# Altium schematic symbol library lib_protel_HC.SCHLIB: 494 symbols (part 1 of 4)
Pins are listed as number, name and electrical type; pins without a type are passive.

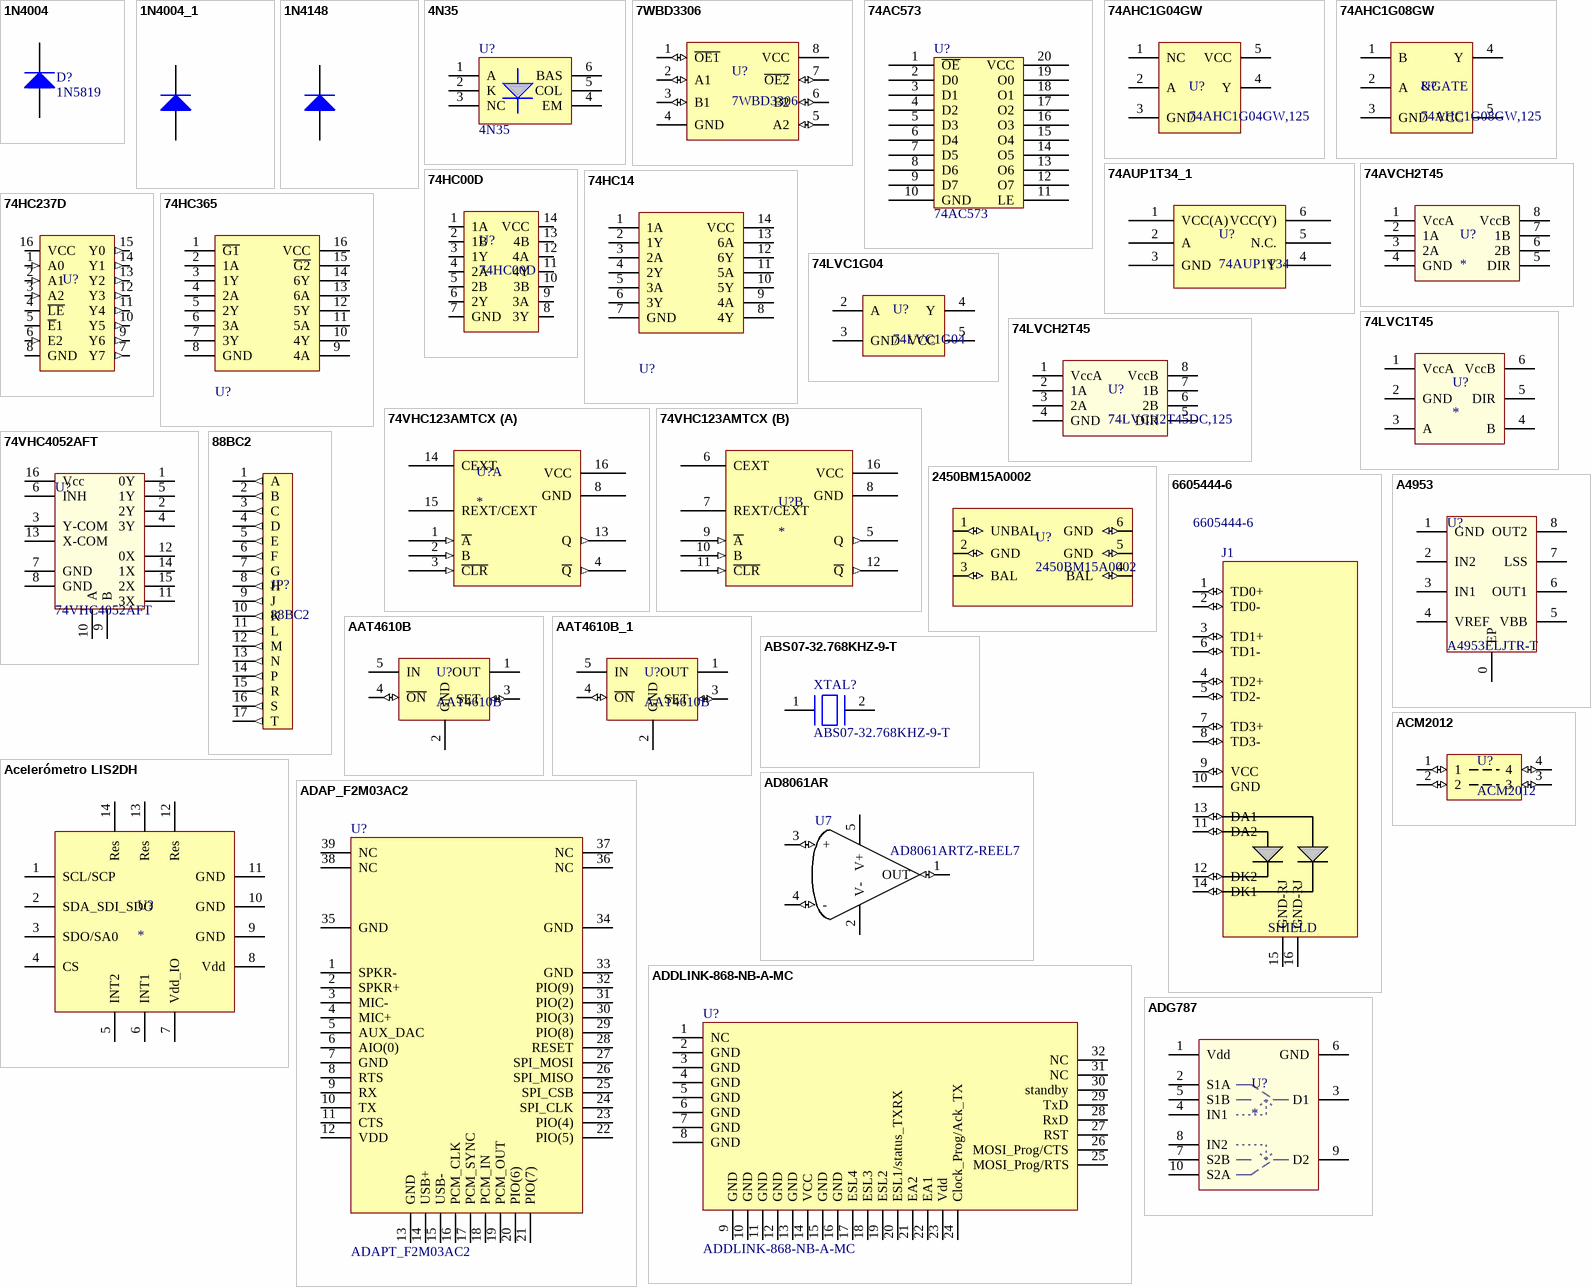
[diagram p0: symbols 1N4004 to ADG787]

## 1N4004
designator D?, comment 1N5819
1.0 Ampere General Purpose Rectifier; Manufacturer: Fairchild Semiconductor; Revision 1: 11-July-2000: SIM Model Added.; Revision 2: July-2002: Re-released for DXP Platform.; Package Information: Latest Revision: Aug-1999; Class I: Discrete; Class II: Rectifier - Standard Recovery; Published: 8-Jun-2000; Datasheet: Latest Revision: 1998; Package Reference: DO-41; Publisher: Altium Limited
footprint DIO10.46-5.3x2.8
simulation model 1N4004 (DIODE)
signal-integrity model 1N4004
footprint D0-41
pins: 1 A, 2 K

## 1N4004_1
designator D2, comment 1N5819
1.0 Ampere General Purpose Rectifier; Manufacturer: Fairchild Semiconductor; Revision 1: 11-July-2000: SIM Model Added.; Revision 2: July-2002: Re-released for DXP Platform.; Package Information: Latest Revision: Aug-1999; Class I: Discrete; Class II: Rectifier - Standard Recovery; Published: 8-Jun-2000; Datasheet: Latest Revision: 1998; Package Reference: DO-41; Publisher: Altium Limited
footprint DIO10.46-5.3x2.8
simulation model 1N4004 (DIODE)
signal-integrity model 1N4004
footprint D0-41
pins: 1 A, 2 K

## 1N4148
designator D?
Manufacturer: Fairchild Semiconductor; Revision 1: 11-July-2000: SIM Model Added.; Revision 2: July-2002: Re-released for DXP Platform.; Package Information: Latest Revision: Aug-1999; Class I: Discrete; Class II: Rectifier - Standard Recovery; Published: 8-Jun-2000; Datasheet: Latest Revision: 1998; Package Reference: DO-41; Publisher: Altium Limited
pins: 1 A, 2 K

## 4N35
designator U?
RS CODE: 817-246; REF FARNELL: *
footprint DIP6
pins: 1 A, 2 K, 3 NC, 4 EM, 5 COL, 6 BAS

## 7WBD3306
designator U?
CODIGO FARNELL: *; CODIGO MOUSER: *; DISTRIBUIDOR 1: *; DISTRIBUIDOR 2: *
pins: 1 ~{OE1} (io), 2 A1 (io), 3 B1 (io), 4 GND (power), 5 A2 (io), 6 B2 (io), 7 ~{OE2} (io), 8 VCC (power)

## 74AC573
designator U?
CODIGO FARNELL: 1103079; PRECIO FARNELL: 0.61
pins: 1 ~{OE}, 2 D0, 3 D1, 4 D2, 5 D3, 6 D4, 7 D5, 8 D6, 9 D7, 10 GND, 11 LE, 12 O7, 13 O6, 14 O5, 15 O4, 16 O3, 17 O2, 18 O1, 19 O0, 20 VCC

## 74AHC1G04GW
designator U?, comment 74AHC1G04GW,125
LOGIC AND GATE; FABRICANTE: NXP Semiconductors; CODIGO DIGIKEY: 568-2500-1-ND; CODIGO FABRICANTE: 74AHC1G04GW,125; DISTRIBUIDOR1: *; DISTRIBUIDOR2: *
footprint SSOP5
pins: 1 NC, 2 A, 3 GND, 4 Y, 5 VCC

## 74AHC1G08GW
designator U?, comment 74AHC1G08GW,125
LOGIC AND GATE; FABRICANTE: NXP Semiconductors; CODIGO DIGIKEY: 568-2501-1-ND; CODIGO FABRICANTE: 74AHC1G08GW,125; DISTRIBUIDOR1: *; DISTRIBUIDOR2: *
footprint SOT-353
pins: 1 B, 2 A, 3 GND, 4 Y, 5 VCC
text: &GATE

## 74AUP1T34_1
designator U?, comment 74AUP1T34
FABRICANTE: NXP; REFERENCIA FABRICANTE: 74AUP1T34GM; CODIGO DIGIKEY: 568-9170-1-ND; CODIGO FARNELL: *; CODIGO MOUSER: *
pins: 1 VCC(A), 2 A, 3 GND, 4 Y, 5 N.C., 6 VCC(Y)

## 74AVCH2T45
designator U?
CODIGO DIGIKEY: *; CODIGO FARNELL: *; CODIGO MOUSER: *; REF_FABRICANTE: *; FABRICANTE: *; DISTRIBUIDOR1: *; DISTRIBUIDOR2: *
pins: 1 VccA, 2 1A, 3 2A, 4 GND, 5 DIR, 6 2B, 7 1B, 8 VccB

## 74HC00D
designator U?
NAND; CODIGO FARNELL: *; PRECIO FARNELL: *
pins: 1 1A, 2 1B, 3 1Y, 4 2A, 5 2B, 6 2Y, 7 GND, 8 3Y, 9 3A, 10 3B, 11 4Y, 12 4A, 13 4B, 14 VCC

## 74HC14
designator U?  (value not drawn)
PRECIO FARNELL: *
pins: 1 1A, 2 1Y, 3 2A, 4 2Y, 5 3A, 6 3Y, 7 GND, 8 4Y, 9 4A, 10 5Y, 11 5A, 12 6Y, 13 6A, 14 VCC

## 74HC237D
designator U?  (value not drawn)
DECODIFICADOR; CODIGO FARNELL: *; PRECIO FARNELL: *
pins: 1 A0 (in), 2 A1 (in), 3 A2 (in), 4 ~{LE}, 5 ~{E}1, 6 E2 (in), 7 Y7 (out), 8 GND, 9 Y6 (out), 10 Y5 (out), 11 Y4 (out), 12 Y3 (out), 13 Y2 (out), 14 Y1 (out), 15 Y0 (out), 16 VCC

## 74HC365
designator U?  (value not drawn)
CODIGO FARNELL: *; PRECIO FARNELL: *
pins: 1 ~{G1}, 2 1A, 3 1Y, 4 2A, 5 2Y, 6 3A, 7 3Y, 8 GND, 9 4A, 10 4Y, 11 5A, 12 5Y, 13 6A, 14 6Y, 15 ~{G2}, 16 VCC

## 74LVC1G04
designator U?
LOGIC INVERTER; REF. FABRICANTE: 74LVC1G04GW; REF. DIGIKEY: 74LVC1G04W5-7DITR-ND
footprint SOT23_5
pins: 2 A, 3 GND, 4 Y, 5 VCC

## 74LVC1T45
designator U?
CODIGO DIGIKEY: *; CODIGO FARNELL: *; CODIGO MOUSER: *; FABRICANTE: *; REF_FABRICANTE: *; DISTRIBUIDOR1: *; DISTRIBUIDOR2: *
pins: 1 VccA, 2 GND, 3 A, 4 B, 5 DIR, 6 VccB

## 74LVCH2T45
designator U?, comment 74LVCH2T45DC,125
FABRICANTE: NXP Semiconductors; CODIGO DIGIKEY: 568-5497-1-ND; CODIGO FARNELL: *; CODIGO MOUSER: *; REF_FABRICANTE: 74LVCH2T45DC,125; DISTRIBUIDOR1: *; DISTRIBUIDOR2: *
footprint VSSOP-8
pins: 1 VccA, 2 1A, 3 2A, 4 GND, 5 DIR, 6 2B, 7 1B, 8 VccB

## 74VHC123AMTCX
designator U?
Multivibrador monoestable; CODIGO FARNELL: *; CODIGO DIGIKEY: *; CODIGO MOUSER: *; DISTRIBUIDOR 1: *; DISTRIBUIDOR 2: *; ComponentLink1Description: *; ComponentLink1URL: *; FABRICANTE: *; REF_FABRICANTE: *
part A pins: 1 ~{A} (in), 2 B (in), 3 ~{CLR} (in), 4 ~{Q} (out), 8 GND (power), 13 Q (out), 14 CEXT (power), 15 REXT/CEXT (power), 16 VCC (power)
part B pins: 5 Q (out), 6 CEXT (power), 7 REXT/CEXT (power), 8 GND (power), 9 ~{A} (in), 10 B (in), 11 ~{CLR} (in), 12 ~{Q} (out), 16 VCC (power)

## 74VHC4052AFT
designator U?
DEMUX; FABRICANTE: Toshiba; Vin: 2 V ~ 5.5 V; CODIGO DIGIKEY: 74VHC4052AFTCT-ND; CODIGO FARNELL: *; CODIGO MOUSER: *; DISTRIBUIDOR 1: *; DISTRIBUIDOR 2: *; REF_FABRICANTE: 74VHC4052AFT; ComponentLink1URL: *; ComponentLink1Description: *
footprint TSSOP-16
pins: 1 0Y, 2 2Y, 3 Y-COM, 4 3Y, 5 1Y, 6 INH, 7 GND, 8 GND, 9 B, 10 A, 11 3X, 12 0X, 13 X-COM, 14 1X, 15 2X, 16 Vcc

## 88BC2
designator JP?
Teclado Grayhill serie 88 de Polo Simple 4x4; REF. FABRICANTE: 88BC2
footprint 88BC2 (Teclado Grayhill serie 88 de 4x4 Polo Simple)
pins: 1 A (out) "GND", 2 B (out) "GND", 3 C (out) "GND", 4 D (out) "GND", 5 E (out) "GND", 6 F (out) "GND", 7 G (out) "GND", 8 H (out) "GND", 9 J (out) "GND", 10 K (out) "GND", 11 L (out) "GND", 12 M (out) "GND", 13 N (out) "GND", 14 P (out) "GND", 15 R (out) "GND", 16 S (out) "GND", 17 T (out) "GND"

## 2450BM15A0002
designator U?
CODIGO DIGIKEY: *; CODIGO FARNELL: *; CODIGO MOUSER: *
pins: 1 UNBAL (io), 2 GND (io), 3 BAL (io), 4 BAL (io), 5 GND (io), 6 GND (io)

## 6605444-6
designator J1
FABRICANTE: TYCO; CODIGO DIGIKEY: A99638-ND; STOCK DIGIKEY: 12; CODIGO FARNELL: 1284347
footprint HFJ11-1G02E-L11 (CONECTOR ETHERNET ALTA VELOCIDAD CON LED)
footprint 6605444-6 (CONECTOR ETHERNET ALTA VELOCIDAD CON LED)
pins: 1 TD0+ (io), 2 TD0- (io), 3 TD1+ (io), 4 TD2+ (io), 5 TD2- (io), 6 TD1- (io), 7 TD3+ (io), 8 TD3- (io), 9 VCC (io), 10 GND (power), 11 DA2 (io), 12 DK2 (io), 13 DA1 (io), 14 DK1 (io), 15 GND-RJ (power), 16 GND-RJ (power)
text: SHIELD

## A4953
designator U?, comment A4953ELJTR-T
Regulador genérico 3 pin; FABRICANTE: Allegro MicroSystems, LLC; V supply: 8 V ~ 40 V; Iout: 2A; CODIGO DIGIKEY: 620-1428-1-ND; CODIGO FARNELL: *; CODIGO MOUSER: *; DISTRIBUIDOR 1: *; DISTRIBUIDOR 2: *; REF_FABRICANTE: A4953ELJTR-T; ComponentLink1URL: *; ComponentLink1Description: *; V load: 8 V ~ 40 V
footprint SOIC-8 - ep
pins: 0 EP, 1 GND, 2 IN2, 3 IN1, 4 VREF, 5 VBB, 6 OUT1, 7 LSS, 8 OUT2

## AAT4610B
designator U?
CODIGO FABRICANTE: AAT4610BIGV-1-T1; CODIGO DIGIKEY: 863-1485-1-ND
footprint SOT23_5
pins: 1 OUT (power), 2 GND (power), 3 SET (io), 4 ~{ON} (io), 5 IN (power)

## AAT4610B_1
designator U?, comment AAT4610B
CODIGO FABRICANTE: AAT4610BIGV-1-T1; CODIGO DIGIKEY: 863-1485-1-ND
footprint SOT23_5
pins: 1 OUT (power), 2 GND (power), 3 SET (io), 4 ~{ON} (io), 5 IN (power)

## ABS07-32.768KHZ-9-T
designator XTAL?
Crystal Oscillator; CODIGO DIGIKEY: 535-9544-1-ND
pins: 1, 2

## Acelerómetro LIS2DH
designator U?
Acelerómetro ST - LIS2DH; CODIGO_DIGIKEY: *; CODIGO_FARNELL: *; CODIGO_MOUSER: *; ComponentLink1Description: *; ComponentLink1URL: *; DISTRIBUIDOR 1: *; DISTRIBUIDOR 2: *; FABRICANTE: *; REF_FABRICANTE: *
pins: 1 SCL/SCP, 2 SDA_SDI_SDO, 3 SDO/SA0, 4 CS, 5 INT2, 6 INT1, 7 Vdd_IO, 8 Vdd, 9 GND, 10 GND, 11 GND, 12 Res, 13 Res, 14 Res

## ACM2012
designator U?
DIGIKEY REF: *
pins: 1 (io), 2 (io), 3 (io), 4 (io)

## AD8061AR
designator U7, comment AD8061ARTZ-REEL7
Manufacturer: ANALOG DEVICES; PLAZO ENTREGA: INMEDIATO DIGIKEY-FARNELL; CODIGO DIGIKEY: AD8061ARTZ-REEL7CT-ND; STOCK DIGIKEY: 4925; PRECIO DIGIKEY 1: 1.49; PRECIO DIGIKEY 100: 0.891; PRECIO DIGIKEY 500: 0.8019; PRECIO DIGIKEY 1000: 0.7722; CODIGO FARNELL: 1319424; PRECIO FARNELL 1: 2.3; STOCK FARNELL: 1383
footprint SOT23_5
pins: 1 OUT (io), 2 V- (power), 3 + (io), 4 - (io), 5 V+ (power)

## ADAP_F2M03AC2
designator U?, comment ADAPT_F2M03AC2
pins: 1 SPKR-, 2 SPKR+, 3 MIC-, 4 MIC+, 5 AUX_DAC, 6 AIO(0), 7 GND, 8 RTS, 9 RX, 10 TX, 11 CTS, 12 VDD, 13 GND, 14 USB+, 15 USB-, 16 PCM_CLK, 17 PCM_SYNC, 18 PCM_IN, 19 PCM_OUT, 20 PIO(6), 21 PIO(7), 22 PIO(5), 23 PIO(4), 24 SPI_CLK, 25 SPI_CSB, 26 SPI_MISO, 27 SPI_MOSI, 28 RESET, 29 PIO(8), 30 PIO(3), 31 PIO(2), 32 PIO(9), 33 GND, 34 GND, 35 GND, 36 NC, 37 NC, 38 NC, 39 NC

## ADDLINK-868-NB-A-MC
designator U?
footprint ADDLINK-868-NB-A-MC (MODULO RF TINY)
pins: 1 NC, 2 GND, 3 GND, 4 GND, 5 GND, 6 GND, 7 GND, 8 GND, 9 GND, 10 GND, 11 GND, 12 GND, 13 GND, 14 VCC, 15 GND, 16 GND, 17 ESL4, 18 ESL3, 19 ESL2, 20 ESL1/status_TXRX, 21 EA2, 22 EA1, 23 Vdd, 24 Clock_Prog/Ack_TX, 25 MOSI_Prog/RTS, 26 MOSI_Prog/CTS, 27 RST, 28 RxD, 29 TxD, 30 standby, 31 NC, 32 NC

## ADG787
designator U?
for LFCSP y MSOP; CODIGO DIGIKEY: *; CODIGO MOUSER: *; CODIGO FARNELL: *; FABRICANTE: *; REF_FABRICANTE: *; DISTRIBUIDOR1: *; DISTRIBUIDOR2: *
pins: 1 Vdd, 2 S1A, 3 D1, 4 IN1, 5 S1B, 6 GND, 7 S2B, 8 IN2, 9 D2, 10 S2A

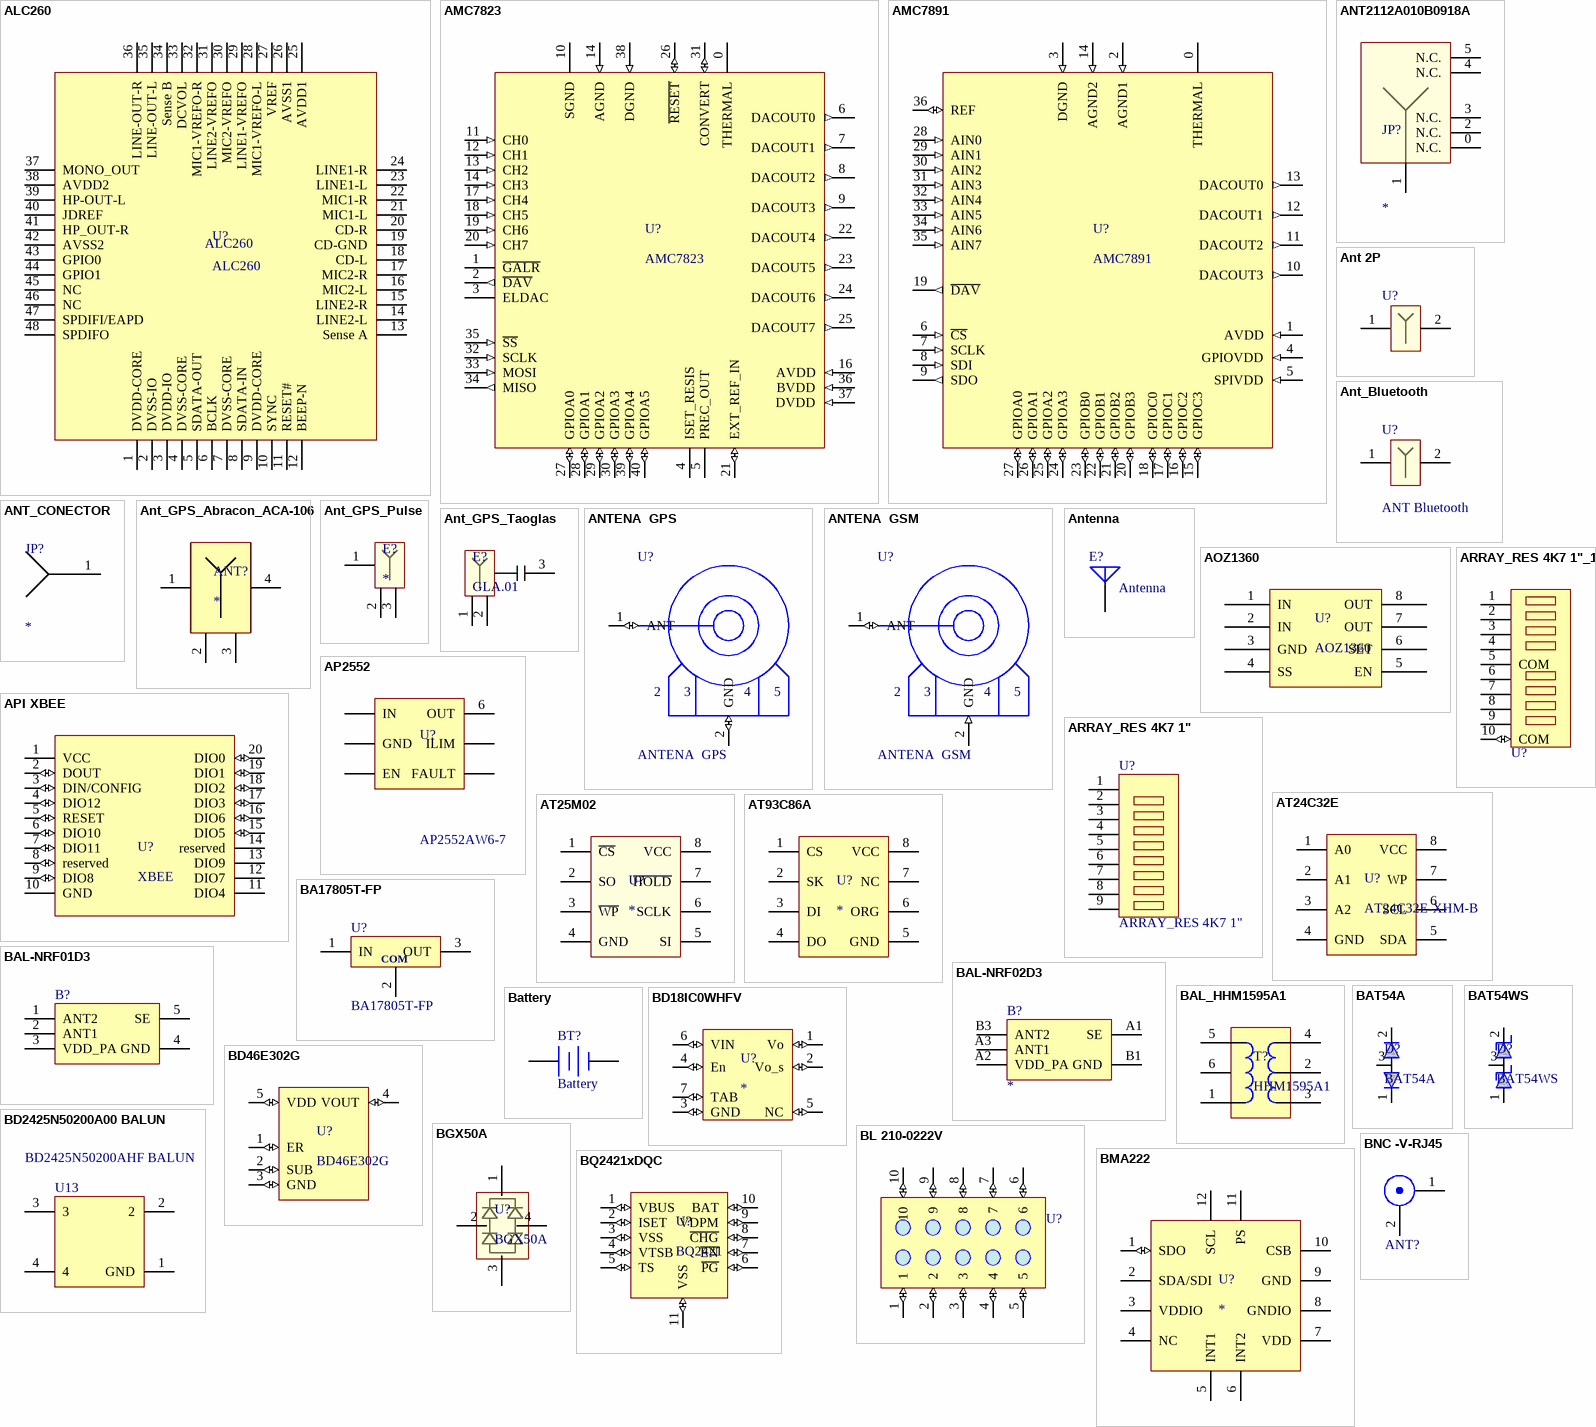
[diagram p1: symbols ALC260 to BQ2421xDQC]

## ALC260
designator U?
CODIGO DIGIKEY: *; CODIGO FARNELL: *; CODIGO MOUSER: *; FABRICANTE: *; CODIGO PRODUCTO: *; DISTRIBUIDOR 1: *; DISTRIBUIDOR 2: *
pins: 1 DVDD-CORE, 2 DVSS-IO, 3 DVDD-IO, 4 DVSS-CORE, 5 SDATA-OUT, 6 BCLK, 7 DVSS-CORE, 8 SDATA-IN, 9 DVDD-CORE, 10 SYNC, 11 RESET#, 12 BEEP-N, 13 Sense A, 14 LINE2-L, 15 LINE2-R, 16 MIC2-L, 17 MIC2-R, 18 CD-L, 19 CD-GND, 20 CD-R, 21 MIC1-L, 22 MIC1-R, 23 LINE1-L, 24 LINE1-R, 25 AVDD1, 26 AVSS1, 27 VREF, 28 MIC1-VREFO-L, 29 LINE1-VREFO, 30 MIC2-VREFO, 31 LINE2-VREFO, 32 MIC1-VREFO-R, 33 DCVOL, 34 Sense B, 35 LINE-OUT-L, 36 LINE-OUT-R, 37 MONO_OUT, 38 AVDD2, 39 HP-OUT-L, 40 JDREF, 41 HP_OUT-R, 42 AVSS2, 43 GPIO0, 44 GPIO1, 45 NC, 46 NC, 47 SPDIFI/EAPD, 48 SPDIFO

## AMC7823
designator U?
TEXAS INSTRUMENTS: AMC7823
pins: 0 THERMAL, 1 ~{GALR}, 2 ~{DAV} (out), 3 ELDAC, 4 ISET_RESIS, 5 PREC_OUT, 6 DACOUT0 (out), 7 DACOUT1 (out), 8 DACOUT2 (out), 9 DACOUT3 (out), 10 SGND (power), 11 CH0 (in), 12 CH1 (in), 13 CH2 (in), 14 AGND (in), 14 CH3 (in), 16 AVDD (in), 17 CH4 (in), 18 CH5 (in), 19 CH6 (in), 20 CH7 (in), 21 EXT_REF_IN (io), 22 DACOUT4 (out), 23 DACOUT5 (out), 24 DACOUT6 (out), 25 DACOUT7 (out), 26 ~{RESET} (io), 27 GPIOA0 (io), 28 GPIOA1 (io), 29 GPIOA2 (io), 30 GPIOA3 (io), 31 CONVERT (io), 32 SCLK (in), 33 MOSI (in), 34 MISO (out), 35 ~{SS} (in), 36 BVDD (in), 37 DVDD (in), 38 DGND (in), 39 GPIOA4 (io), 40 GPIOA5 (io)

## AMC7891
designator U?
TEXAS INSTRUMENTS: AMC7891
pins: 0 THERMAL, 1 AVDD (in), 2 AGND1 (in), 3 DGND (in), 4 GPIOVDD (in), 5 SPIVDD (in), 6 ~{CS} (in), 7 SCLK (in), 8 SDI (in), 9 SDO (out), 10 DACOUT3 (out), 11 DACOUT2 (out), 12 DACOUT1 (out), 13 DACOUT0 (out), 14 AGND2 (in), 15 GPIOC3 (io), 16 GPIOC2 (io), 17 GPIOC1 (io), 18 GPIOC0 (io), 19 ~{DAV} (out), 20 GPIOB3 (io), 21 GPIOB2 (io), 22 GPIOB1 (io), 23 GPIOB0 (io), 24 GPIOA3 (io), 25 GPIOA2 (io), 26 GPIOA1 (io), 27 GPIOA0 (io), 28 AIN0 (in), 29 AIN1 (in), 30 AIN2 (in), 31 AIN3 (in), 32 AIN4 (in), 33 AIN5 (in), 34 AIN6 (in), 35 AIN7 (in), 36 REF (io)

## ANT2112A010B0918A
designator JP?
Antenna conector; CÓDIGO DIGIKEY: *; CÓDIGO FARNELL: *; CÓDIGO MOUSER: *; FABRICANTE: *; REF_FABRICANTE: *; DISTRIBUIDOR 1: *; DISTRIBUIDOR 2: *
pins: 0 N.C., 1 ANT, 2 N.C., 3 N.C., 4 N.C., 5 N.C.

## Ant 2P
designator U?, comment ANTENNA  (value not drawn)
Antena 2 pines; CODIGO DIGIKEY: *; CODIGO FARNELL: *; CODIGO MOUSER: *; FABRICANTE: *; REF_FABRICANTE: *; DISTRIBUIDOR 1: *; DISTRIBUIDOR 2: *; ComponentLink1URL: *; ComponentLink1Description: *
pins: 1, 2

## Ant_Bluetooth
designator U?, comment ANT Bluetooth
CODIGO DIGIKEY: *; CODIGO FARNELL: *; CODIGO MOUSER: *; FABRICANTE: *; REF_FABRICANTE: *; DISTRIBUIDOR 1: *; DISTRIBUIDOR 2: *; ComponentLink1URL: *; ComponentLink1Description: *
pins: 1, 2

## ANT_CONECTOR
designator JP?
Antenna conector; CODIGO DIGIKEY: *; CODIGO FARNELL: *; CODIGO MOUSER: *; FABRICANTE: *; REF_FABRICANTE: *; DISTRIBUIDOR 1: *; DISTRIBUIDOR 2: *
pins: 1 ANT

## Ant_GPS_Abracon_ACA-106
designator ANT?
GPS Antena; CODIGO DIGIKEY: *; CODIGO MOUSER: *; CODIGO FARNELL: *; REF_FABRICANTE: *; FABRICANTE: *; ComponentLink1Description: *; ComponentLink1URL: *; DISTRIBUIDOR1: *; DISTRIBUIDOR2: *
footprint ANT_GPS_ABRACON_ACA-106 (Antena GPS Abracom ACA-106)
pins: 1, 2, 3, 4

## Ant_GPS_Pulse
designator E?
Antena GPS Pulse; CODIGO DIGIKEY: *; CODIGO FARNELL: *; CODIGO MOUSER: *; FABRICANTE: *; REF_FABRICANTE: *; DISTRIBUIDOR 1: *; DISTRIBUIDOR 2: *; ComponentLink1URL: *; ComponentLink1Description: *
pins: 1, 2, 3

## Ant_GPS_Taoglas
designator E?, comment GLA.01
Antena GPS Pulse; FABRICANTE: Taoglas Limited; CODIGO DIGIKEY: 931-1029-1-ND; CODIGO FARNELL: *; CODIGO MOUSER: *; REF_FABRICANTE: GLA.01; DISTRIBUIDOR 1: *; DISTRIBUIDOR 2: *; ComponentLink1URL: *; ComponentLink1Description: *
footprint ANTENA GLA.01 GPS
pins: 1, 2, 3

## ANTENA  GPS
designator U?
FABRICANTE: NTK; REF FABRICANTE: LIT157P-2003A; PRECIO: *
footprint LIT157P-2004A (ANTENA GPS)
pins: 1 ANT (io), 2 GND (io)
text: 3; 4; 5

## ANTENA  GSM
designator U?
FABRICANTE: TYCO ELECTRONICS; REF FABRICANTE: EBD0-0248-03 MMCX STRAIGHT PCB; REF ANTENA LATIGUILLO: YAGEO CAN4313330129191B; PRECIO ANTENA: 2.26; PRECIO CONECTOR: *
footprint MMCX CONNECTOR (conector para antena gsm MMCX)
pins: 1 ANT (io), 2 GND (in)
text: 3; 4; 5

## Antenna
designator E?
Generic Antenna; Published: 24-Mar-1999; Revision: July-2002: Re-released for DXP Platform.; Publisher: Altium Limited; CODIGO DIGIKEY: *; CODIGO FARNELL: *; CODIGO MOUSER: *
footprint PIN1
footprint FR05-S1-N-0-001 (ANTENA FRACTUS CUADRADA ZIGBEE)
pins: 1 A

## AOZ1360
designator U?
CODIGO DIGIKEY: 785-1418-1-ND; CODIGO FARNELL: *; CODIGO MOUSER: *
pins: 1 IN, 2 IN, 3 GND, 4 SS, 5 EN, 6 SET, 7 OUT, 8 OUT

## AP2552
designator U?, comment AP2552AW6-7
IC PD SW CURR LIMIT SOT26; FABRICANTE: Diodes; Voltaje: 2.7V-5.5V; Imax: 2.1; CODIGO DIGIKEY: AP2552AW6-7DICT-ND; CODIGO FARNELL: *; CODIGO MOUSER: *; REF_FABRICANTE: AP2552AW6-7; DISTRIBUIDOR 1: *; DISTRIBUIDOR 2: *; ComponentLink1URL: *; ComponentLink1Description: *
footprint SOT-26
pins: 1 IN, 2 GND, 3 EN, 4 FAULT, 5 ILIM, 6 OUT (power)

## API XBEE
designator U?, comment XBEE
CODIGO FABRICANTE: *
pins: 1 VCC (power), 2 DOUT (io), 3 DIN/CONFIG (io), 4 DIO12 (io), 5 RESET (io), 6 DIO10 (io), 7 DIO11 (io), 8 reserved (io), 9 DIO8 (io), 10 GND (power), 11 DIO4 (power), 12 DIO7 (power), 13 DIO9 (power), 14 reserved (power), 15 DIO5 (io), 16 DIO6 (io), 17 DIO3 (io), 18 DIO2 (io), 19 DIO1 (io), 20 DIO0 (io)

## ARRAY_RES 4K7 1"
designator U?
REF FARNELL: *; REF AMIDATA: *
footprint HDR1X8
pins: 1 COM, 2, 3, 4, 5, 6, 7, 8, 9

## ARRAY_RES 4K7 1"_1
designator U?, comment ARRAY 8 RESIST  (value not drawn)
REF FARNELL SMD: 923-6155; REF AMIDATA: *; PRECIO FARNELL: 0.23
footprint HDR1X8
footprint 1206 ARRAY RESIST
pins: 1, 2, 3, 4, 5 COM, 6, 7, 8, 9, 10 COM (io)

## AT24C32E
designator U?, comment AT24C32E-XHM-B
EEPROM memory; FABRICANTE: Microchip Technology; CODIGO FARNELL: *; CODIGO DIGIKEY: 1611-AT24C32E-XHM-B-ND; CODIGO MOUSER: *; REF_FABRICANTE: AT24C32E-XHM-B; DISTRIBUIDOR1: *; DISTRIBUIDOR2: *
pins: 1 A0, 2 A1, 3 A2, 4 GND (power), 5 SDA, 6 SCL (power), 7 WP, 8 VCC (power)

## AT25M02
designator U?
CODIGO DIGIKEY: *; CODIGO FARNELL: *; CODIGO MOUSER: *; REF_FABRICANTE: *; FABRICANTE: *; DISTRIBUIDOR1: *; DISTRIBUIDOR2: *
pins: 1 ~{CS}, 2 SO, 3 ~{WP}, 4 GND, 5 SI, 6 SCLK, 7 ~{HOLD}, 8 VCC

## AT93C86A
designator U?
EEPROM memory; CODIGO FARNELL: *; CODIGO DIGIKEY: *; FABRICANTE: *; CODIGO MOUSER: *; REF_FABRICANTE: *; DISTRIBUIDOR1: *; DISTRIBUIDOR2: *
pins: 1 CS, 2 SK, 3 DI, 4 DO (power), 5 GND, 6 ORG (power), 7 NC, 8 VCC (power)

## BA17805T-FP
designator U?
RS CODE: 263-9795
footprint DPACK
pins: 1 IN, 2 COM, 3 OUT

## BAL-NRF01D3
designator B?
ST BAL-NRF01D3; REF FABRICANTE: *; CÓDIGO MOUSER: *; CÓDIGO FARNELL: *; CÓDIGO DIGIKEY: *; FABRICANTE: *; DISTRIBUIDOR 1: *; DISTRIBUIDOR 2: *
pins: 1 ANT2, 2 ANT1, 3 VDD_PA, 4 GND, 5 SE

## BAL-NRF02D3
designator B?
50 ohm balun transformer for 2.45GHz ISM; FABRICANTE: *; REF_FABRICANTE: *; CODIGO DIGIKEY: *; CODIGO MOUSER: *; CODIGO FARNELL: *; DISTRIBUIDOR 1: *; DISTRIBUIDOR 2: *
pins: A1 SE, A2 VDD_PA (power), A3 ANT1, B1 GND (power), B3 ANT2

## BAL_HHM1595A1
designator T?, comment HHM1595A1
50 ohm balun transformer for UWB; FABRICANTE: TDK; ENCAPSULADO: 0805; FRECUENCIA: 3.0 - 8.0 GHz; CODIGO DIGIKEY: *; CODIGO FARNELL: *; CODIGO MOUSER: *; REF_FABRICANTE: HHM1595A1; ComponentLink1Description: *; ComponentLink1URL: *; DISTRIBUIDOR1: *; DISTRIBUIDOR2: *
pins: 1, 2, 3, 4, 5, 6

## BAT54A
designator D?
CODIGO DIGIKEY: *; CODIGO FARNELL: *; CODIGO MOUSER: *; DISTRIBUIDOR 1: *; DISTRIBUIDOR 2: *
pins: 1, 2, 3

## BAT54WS
designator D?
REF FABRICANTE: BAT54WS; CODIGO DIGIKEY: *; CODIGO FARNELL: *; CODIGO MOUSER: *; DISTRIBUIDOR 1: *; DISTRIBUIDOR 2: *
pins: 1, 2, 3

## Battery
designator BT?
Multicell Battery; Published: 24-Mar-1999; LatestRevisionDate: 17-Jul-2002; LatestRevisionNote: Re-released for DXP Platform.; PackageReference: BAT-2; Publisher: Altium Limited; PackageDescription: Battery; 2 Leads; CODIGO DIGIKEY: *; CODIGO FARNELL: *; CODIGO MOUSER: *; CODIGO FABRICANTE: *; DISTRIBUIDOR 1: *; DISTRIBUIDOR 2: *; TENSION: *; FABRICANTE: *
pins: 1 +, 2 -

## BD18IC0WHFV
designator U?
FABRICANTE: *; CODIGO FABRICANTE: *; CODIGO DIGIKEY: *; VOUT: *; VIN: *; CORRIENTE: *; FOOTPRINT: *
pins: 1 Vo (io), 2 Vo_s (io), 3 GND (io), 4 En (io), 5 NC (io), 6 VIN (io), 7 TAB (io)

## BD46E302G
designator U?
FABRICANTE: *; CODIGO FABRICANTE: *; CODIGO DIGIKEY: *; FOOTPRINT: *; DISTRIBUIDOR: *
pins: 1 ER (io), 2 SUB (io), 3 GND (io), 4 VOUT (io), 5 VDD (io)

## BD2425N50200A00 BALUN
designator U13, comment BD2425N50200AHF BALUN
FABRICANTE: ANAREN; PRECIO 10: 0.24; PRECIO 5000: 0.19; DISTRIBUIDOR: RICHARSON; CODIGO PRODUCTO: BD2425N50200AHF; PRECIO 1000: 0.24
footprint BD2425N50200A (BALUN 2.4GHZ)
pins: 1 GND, 2, 3, 4

## BGX50A
designator U?
CODIGO MOUSER: *; FABRICANTE: *; DISTRIBUIDOR 1: *; DISTRIBUIDOR 2: *
pins: 1, 2, 3, 4

## BL 210-0222V
designator U?, comment CONECTOR 5X2 MINI  (value not drawn)
conector pines 1mm 5 x 2 de GARRY; REFERENCIA FABRICANTE: BL 210-0222V-010 CU; PRECIO ERMEC: 0,4857 Euros/unidad PARA 10.000 UNIDADES; REFERENCIA PINES MACHO: STL210-0940GTT-10-010U; PRECIO ERMEC PINES: 0,2264 Euros/unidad PARA 10.000 UNIDADES; plazo de entrega por ERMEC: 6-8 SEMANAS; FABRICANTE: GARRY; DISTRIBUIDOR: ERMEC ESPAÑA
footprint BL 210-0222V (conector 5 x 2 1mm)
pins: 1 (io), 2 (io), 3 (io), 4 (io), 5 (io), 6 (io), 7 (io), 8 (io), 9 (io), 10 (io)

## BMA222
designator U?
Acelerómetro 2g - 16g ~ 1.2V - 3.6V ~ SPI/I2C; CÓDIGO DIGIKEY: *; CÓDIGO FARNELL: *; CÓDIGO MOUSER: *; FABRICANTE: *; REF_FABRICANTE: *; DISTRIBUIDOR 1: *; DISTRIBUIDOR 2: *
pins: 1 SDO (io), 2 SDA/SDI, 3 VDDIO, 4 NC, 5 INT1, 6 INT2, 7 VDD, 8 GNDIO, 9 GND, 10 CSB, 11 PS, 12 SCL

## BNC -V-RJ45
designator ANT?
REF FARNELL: 378-6470
footprint SMB_V-RJ45
pins: 1 X, 2 Y

## BQ2421xDQC
designator U?, comment BQ2421
pins: 1 VBUS (io), 2 ISET (io), 3 VSS (io), 4 VTSB (io), 5 TS (io), 6 ~{PG} (io), 7 ~{EN} (io), 8 ~{CHG} (io), 9 VDPM (io), 10 BAT (io), 11 VSS (io)

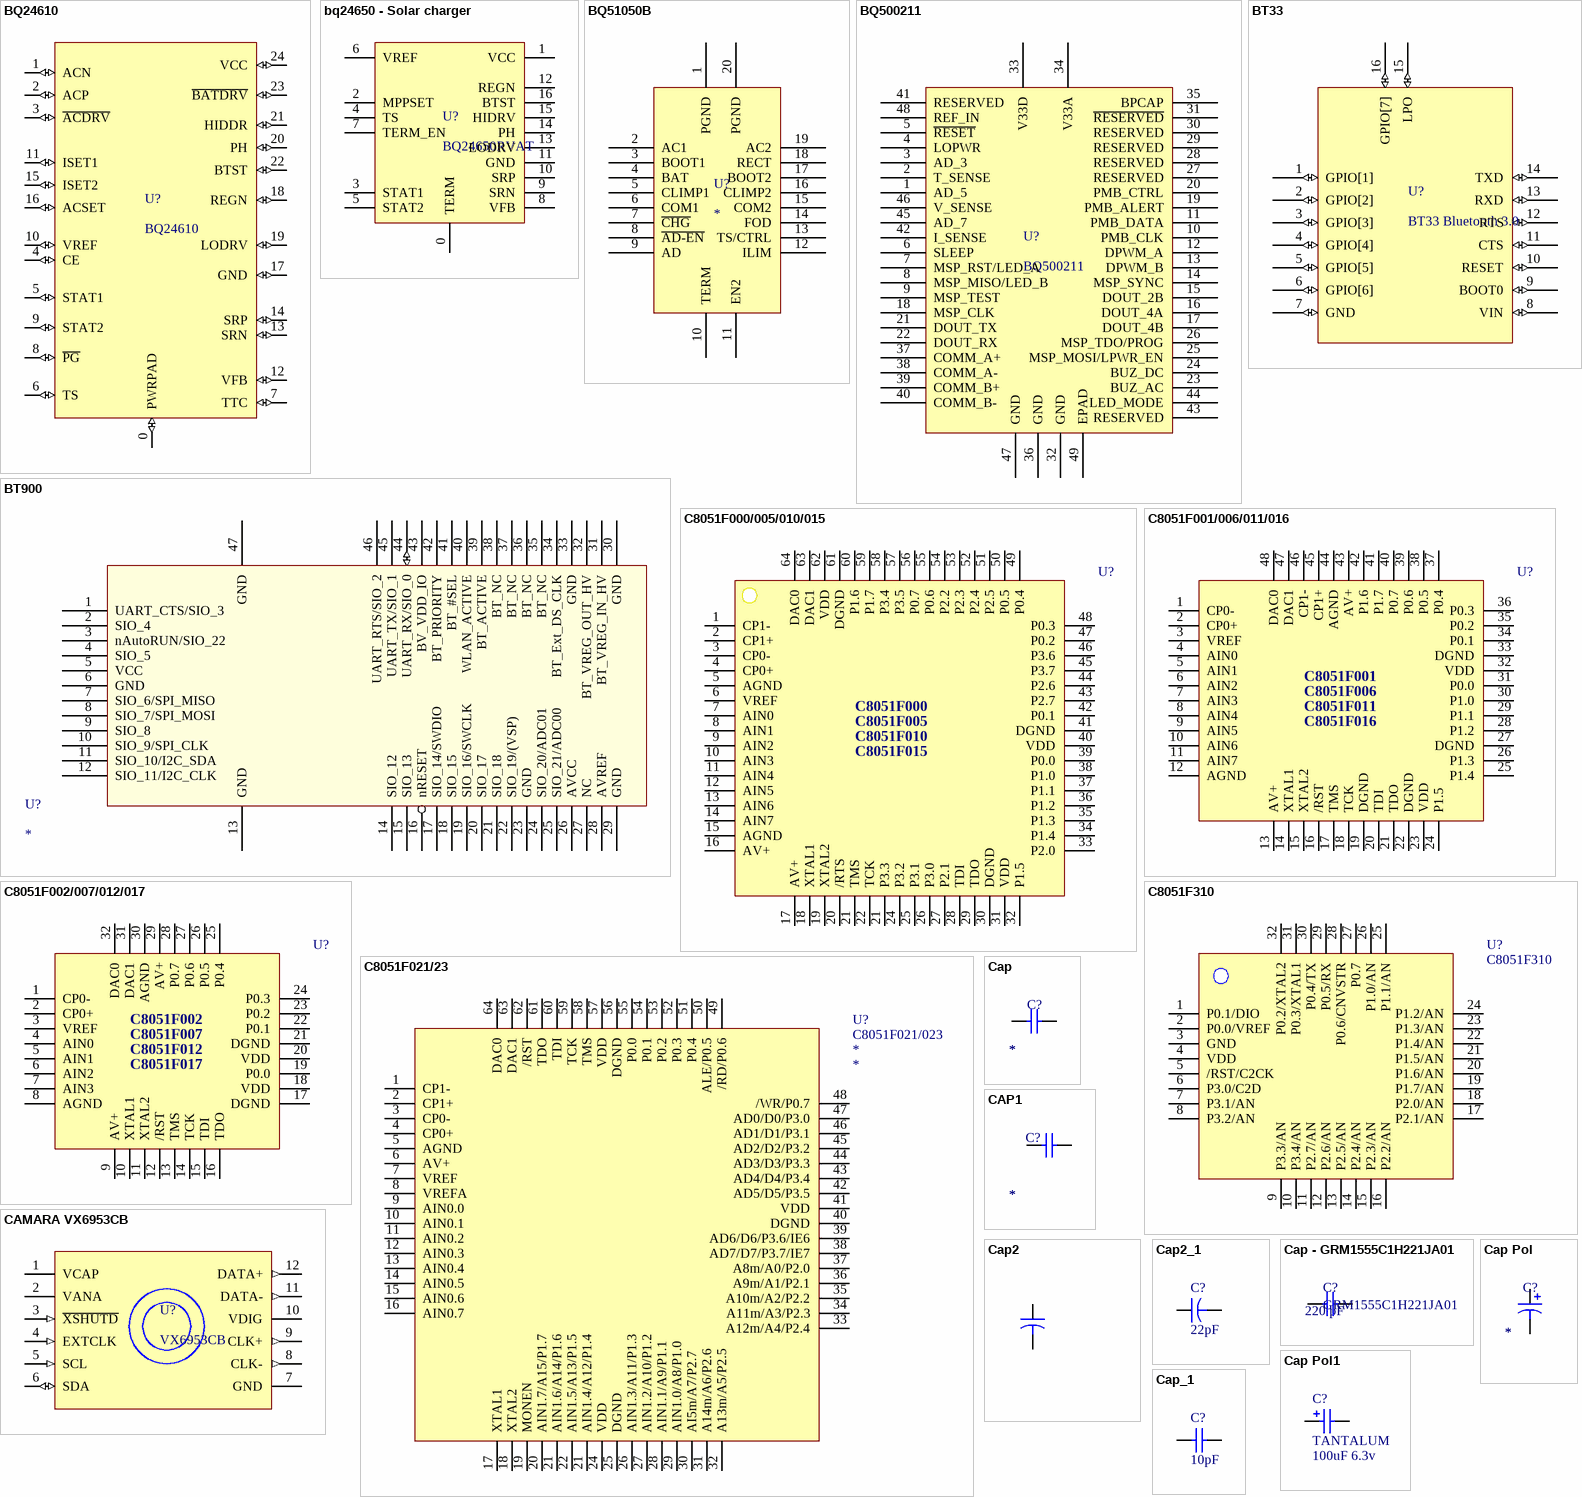
[diagram p2: symbols BQ24610 to Cap_1]

## BQ24610
designator U?
CODIGO DIGIKEY: *; CODIGO MOUSER: *; CODIGO FARNELL: *; DISTRIBUIDOR 1: *; DISTRIBUIDOR 2: *; CODIGO FABRICANTE: *; VIN: *; I OUT: *
pins: 0 PWRPAD (io), 1 ACN (io), 2 ACP (io), 3 ~{ACDRV} (io), 4 CE (io), 5 STAT1 (io), 6 TS (io), 7 TTC (io), 8 ~{PG} (io), 9 STAT2 (io), 10 VREF (io), 11 ISET1 (io), 12 VFB (io), 13 SRN (io), 14 SRP (io), 15 ISET2 (io), 16 ACSET (io), 17 GND (io), 18 REGN (io), 19 LODRV (io), 20 PH (io), 21 HIDDR (io), 22 BTST (io), 23 ~{BATDRV} (io), 24 VCC (io)

## bq24650 - Solar charger
designator U?, comment BQ24650RVAT
Cargador de batería; FABRICANTE: TI; Vin: 2.1V - 28V; VOut: 2.1V - 26V; Iout: <10A; CODIGO DIGIKEY: *; CODIGO FARNELL: *; CODIGO MOUSER: *; DISTRIBUIDOR 1: *; DISTRIBUIDOR 2: *; REF_FABRICANTE: BQ24650RVAT; ComponentLink1Description: *; ComponentLink1URL: *
footprint VQFN-16 (3.5X3.5)
pins: 0 TERM, 1 VCC, 2 MPPSET, 3 STAT1, 4 TS, 5 STAT2, 6 VREF, 7 TERM_EN, 8 VFB, 9 SRN, 10 SRP, 11 GND, 12 REGN, 13 LODRV, 14 PH, 15 HIDRV, 16 BTST

## BQ51050B
designator U?
CODIGO DIGIKEY: *; CODIGO FARNELL: *; CODIGO MOUSER: *; FABRICANTE: *
pins: 1 PGND, 2 AC1, 3 BOOT1, 4 BAT, 5 CLIMP1, 6 COM1, 7 ~{CHG}, 8 ~{AD-EN}, 9 AD, 10 TERM, 11 EN2, 12 ILIM, 13 TS/CTRL, 14 FOD, 15 COM2, 16 CLIMP2, 17 BOOT2, 18 RECT, 19 AC2, 20 PGND

## BQ500211
designator U?
REF FABRICANTE: *; CODIGO DIGIKEY: *; CODIGO FARNELL: *; CODIGO MOUSER: *; DISTRIBUIDOR 1: *; DISTRIBUIDOR 2: *; FABRICANTE: *
pins: 1 AD_5, 2 T_SENSE, 3 AD_3, 4 LOPWR, 5 ~{RESET}, 6 SLEEP, 7 MSP_RST/LED_A, 8 MSP_MISO/LED_B, 9 MSP_TEST, 10 PMB_CLK, 11 PMB_DATA, 12 DPWM_A, 13 DPWM_B, 14 MSP_SYNC, 15 DOUT_2B, 16 DOUT_4A, 17 DOUT_4B, 18 MSP_CLK, 19 PMB_ALERT, 20 PMB_CTRL, 21 DOUT_TX, 22 DOUT_RX, 23 BUZ_AC, 24 BUZ_DC, 25 MSP_MOSI/LPWR_EN, 26 MSP_TDO/PROG, 27 RESERVED, 28 RESERVED, 29 RESERVED, 30 RESERVED, 31 ~{RESERVED}, 32 GND, 33 V33D, 34 V33A, 35 BPCAP, 36 GND, 37 COMM_A+, 38 COMM_A-, 39 COMM_B+, 40 COMM_B-, 41 RESERVED, 42 I_SENSE, 43 RESERVED, 44 LED_MODE, 45 AD_7, 46 V_SENSE, 47 GND, 48 REF_IN, 49 EPAD

## BT33
designator U?, comment BT33 Bluetooth 3.0
Modulo Bluetooth 3.0; FABRICANTE: AMPED RF; REFERENCIA FABRICANTE: BT33; CODIGO DIGIKEY: *; CODIGO MOUSER: *; CODIGO FARNELL: *; DISTRIBUIDOR 1: SINNOPTIC; DISTRIBUIDOR 2: *
pins: 1 GPIO[1] (io), 2 GPIO[2] (io), 3 GPIO[3] (io), 4 GPIO[4] (io), 5 GPIO[5] (io), 6 GPIO[6] (io), 7 GND (io), 8 VIN (io), 9 BOOT0 (io), 10 RESET (io), 11 CTS (io), 12 RTS (io), 13 RXD (io), 14 TXD (io), 15 LPO (io), 16 GPIO[7] (io)

## BT900
designator U?
Bluetooth 4.0 dual mode module; CODIGO DIGIKEY: *; CODIGO FARNELL: *; CODIGO MOUSER: *; DISTRIBUIDOR 1: *; DISTRIBUIDOR 2: *; FABRICANTE: *; REF_FABRICANTE: *; ComponentLink1Description: *; ComponentLink1URL: *
pins: 1 UART_CTS/SIO_3, 2 SIO_4, 3 nAutoRUN/SIO_22, 4 SIO_5, 5 VCC (power), 6 GND (power), 7 SIO_6/SPI_MISO, 8 SIO_7/SPI_MOSI, 9 SIO_8, 10 SIO_9/SPI_CLK, 11 SIO_10/I2C_SDA, 12 SIO_11/I2C_CLK, 13 GND, 14 SIO_12, 15 SIO_13, 16 nRESET, 17 SIO_14/SWDIO, 18 SIO_15, 19 SIO_16/SWCLK, 20 SIO_17, 21 SIO_18, 22 SIO_19/(VSP), 23 GND, 24 SIO_20/ADC01, 25 SIO_21/ADC00, 26 AVCC, 27 NC, 28 AVREF, 29 GND, 30 GND, 31 BT_VREG_IN_HV, 32 BT_VREG_OUT_HV, 33 GND, 34 BT_Ext_DS_CLK, 35 BT_NC, 36 BT_NC, 37 BT_NC, 38 BT_NC, 39 BT_ACTIVE, 40 WLAN_ACTIVE, 41 BT_#SEL, 42 BT_PRIORITY, 43 BV_VDD_IO (power), 44 UART_RX/SIO_0 (io), 45 UART_TX/SIO_1, 46 UART_RTS/SIO_2, 47 GND

## C8051F000/005/010/015
designator U?
MCU Silicon Laboratories
footprint TQFP-64
footprint TQFP-48
footprint TQFP-64
pins: 1 CP1-, 2 CP1+, 3 CP0-, 4 CP0+, 5 AGND, 6 VREF, 7 AIN0, 8 AIN1, 9 AIN2, 10 AIN3, 11 AIN4, 12 AIN5, 13 AIN6, 14 AIN7, 15 AGND, 16 AV+, 17 AV+, 18 XTAL1, 19 XTAL2, 20 /RTS, 21 TMS, 21 P3.3, 22 TCK, 24 P3.2, 25 P3.1, 26 P3.0, 27 P2.1, 28 TDI, 29 TDO, 30 DGND, 31 VDD, 32 P1.5, 33 P2.0, 34 P1.4, 35 P1.3, 36 P1.2, 37 P1.1, 38 P1.0, 39 P0.0, 40 VDD, 41 DGND, 42 P0.1, 43 P2.7, 44 P2.6, 45 P3.7, 46 P3.6, 47 P0.2, 48 P0.3, 49 P0.4, 50 P0.5, 51 P2.5, 52 P2.4, 53 P2.3, 54 P2.2, 55 P0.6, 56 P0.7, 57 P3.5, 58 P3.4, 59 P1.7, 60 P1.6, 61 DGND, 62 VDD, 63 DAC1, 64 DAC0
text: C8051F000; C8051F005; C8051F010; C8051F015

## C8051F001/006/011/016
designator U?
footprint TQFP-48
pins: 1 CP0-, 2 CP0+, 3 VREF, 4 AIN0, 5 AIN1, 6 AIN2, 7 AIN3, 8 AIN4, 9 AIN5, 10 AIN6, 11 AIN7, 12 AGND, 13 AV+, 14 XTAL1, 15 XTAL2, 16 /RST, 17 TMS, 18 TCK, 19 DGND, 20 TDI, 21 TDO, 22 DGND, 23 VDD, 24 P1.5, 25 P1.4, 26 P1.3, 27 DGND, 28 P1.2, 29 P1.1, 30 P1.0, 31 P0.0, 32 VDD, 33 DGND, 34 P0.1, 35 P0.2, 36 P0.3, 37 P0.4, 38 P0.5, 39 P0.6, 40 P0.7, 41 P1.7, 42 P1.6, 43 AV+, 44 AGND, 45 CP1+, 46 CP1-, 47 DAC1, 48 DAC0
text: C8051F001; C8051F006; C8051F011; C8051F016

## C8051F002/007/012/017
designator U?
footprint LQFP-32
pins: 1 CP0-, 2 CP0+, 3 VREF, 4 AIN0, 5 AIN1, 6 AIN2, 7 AIN3, 8 AGND, 9 AV+, 10 XTAL1, 11 XTAL2, 12 /RST, 13 TMS, 14 TCK, 15 TDI, 16 TDO, 17 DGND, 18 VDD, 19 P0.0, 20 VDD, 21 DGND, 22 P0.1, 23 P0.2, 24 P0.3, 25 P0.4, 26 P0.5, 27 P0.6, 28 P0.7, 29 AV+, 30 AGND, 31 DAC1, 32 DAC0
text: C8051F002; C8051F007; C8051F012; C8051F017

## C8051F021/23
designator U?, comment C8051F021/023
REF FARNELL: *; REF AMIDATA: *
pins: 1 CP1-, 2 CP1+, 3 CP0-, 4 CP0+, 5 AGND, 6 AV+, 7 VREF, 8 VREFA, 9 AIN0.0, 10 AIN0.1, 11 AIN0.2, 12 AIN0.3, 13 AIN0.4, 14 AIN0.5, 15 AIN0.6, 16 AIN0.7, 17 XTAL1, 18 XTAL2, 19 MONEN, 20 AIN1.7/A15/P1.7, 21 AIN1.6/A14/P1.6, 21 AIN1.4/A12/P1.4, 22 AIN1.5/A13/P1.5, 24 VDD, 25 DGND, 26 AIN1.3/A11/P1.3, 27 AIN1.2/A10/P1.2, 28 AIN1.1/A9/P1.1, 29 AIN1.0/A8/P1.0, 30 AI5m/A7/P2.7, 31 A14m/A6/P2.6, 32 A13m/A5/P2.5, 33 A12m/A4/P2.4, 34 A11m/A3/P2.3, 35 A10m/A2/P2.2, 36 A9m/A1/P2.1, 37 A8m/A0/P2.0, 38 AD7/D7/P3.7/IE7, 39 AD6/D6/P3.6/IE6, 40 DGND, 41 VDD, 42 AD5/D5/P3.5, 43 AD4/D4/P3.4, 44 AD3/D3/P3.3, 45 AD2/D2/P3.2, 46 AD1/D1/P3.1, 47 AD0/D0/P3.0, 48 /WR/P0.7, 49 /RD/P0.6, 50 ALE/P0.5, 51 P0.4, 52 P0.3, 53 P0.2, 54 P0.1, 55 P0.0, 56 DGND, 57 VDD, 58 TMS, 59 TCK, 60 TDI, 61 TDO, 62 /RST, 63 DAC1, 64 DAC0

## C8051F310
designator U?
footprint LQFP-32
pins: 1 P0.1/DIO, 2 P0.0/VREF, 3 GND, 4 VDD, 5 /RST/C2CK, 6 P3.0/C2D, 7 P3.1/AN, 8 P3.2/AN, 9 P3.3/AN, 10 P3.4/AN, 11 P2.7/AN, 12 P2.6/AN, 13 P2.5/AN, 14 P2.4/AN, 15 P2.3/AN, 16 P2.2/AN, 17 P2.1/AN, 18 P2.0/AN, 19 P1.7/AN, 20 P1.6/AN, 21 P1.5/AN, 22 P1.4/AN, 23 P1.3/AN, 24 P1.2/AN, 25 P1.1/AN, 26 P1.0/AN, 27 P0.7, 28 P0.6/CNVSTR, 29 P0.5/RX, 30 P0.4/TX, 31 P0.3/XTAL1, 32 P0.2/XTAL2

## CAMARA VX6953CB
designator U?, comment VX6953CB
FABRICANTE: ST; CODIGO FABRICANTE: VX6953CB
pins: 1 VCAP (power), 2 VANA (power), 3 ~{XSHUTD} (in), 4 EXTCLK (in), 5 SCL (in), 6 SDA (io), 7 GND (power), 8 CLK- (out), 9 CLK+ (out), 10 VDIG (power), 11 DATA- (out), 12 DATA+ (out)

## Cap
designator C?
Cap; CODIGO DIGIKEY: *; CODIGO FARNELL: *; CODIGO MOUSER: *; FABRICANTE: *; REF_FABRICANTE: *; COEF TEMPERATURA: *; TOLERANCIA: *; TIPO: *; DISTRIBUIDOR 1: *; DISTRIBUIDOR 2: *; VALOR: *; TENSIÓN: *
pins: 1, 2

## CAP1
designator C?
Condensador; Revision: *; FABRICANTE: *; CODIGO FARNELL: *; REF_FABRICANTE: *; CODIGO DIGIKEY: *; CoDIGO MOUSER: *; TIPO: *; TENSIÓN: *; VALOR: *
pins: 1, 2

## Cap2
designator C?  (value not drawn)
Capacitor; Manufacturer: Generic Components; Class I: Passive; Published: 23-Sep-2002; Publisher: Altium Limited; Class II: Capacitor; CODIGO FARNELL: *; PRECIO FARNELL: *; STOCK FARNELL: *
simulation model CAP (Capacitor)
signal-integrity model Cap
pins: 1, 2

## Cap2_1
designator C?, comment value 22pF  (hidden comment: 756-040)
Capacitor; Manufacturer: Generic Components; Class I: Passive; Published: 23-Sep-2002; Publisher: Altium Limited; Class II: Capacitor
footprint 1206 COND (FORMATO PARA CONDENSADORES SMD)
simulation model CAP (Capacitor)
signal-integrity model Cap
pins: 1, 2

## Cap - GRM1555C1H221JA01
designator C?, comment GRM1555C1H221JA01  value 220 pF
220 pF Ceramic Capacitor; Voltaje: DC50V; CODIGO DIGIKEY: 490-1293-1-ND; REFERENCIA FABRICANTE: GRM1555C1H221JA01
footprint 0402 (encapsulado 0402 para R y C.)
pins: 1, 2

## Cap Pol
designator C?
Cap pol; CODIGO DIGIKEY: *; CODIGO FARNELL: *; CODIGO MOUSER: *; FABRICANTE: *; REF_FABRICANTE: *; COEF TEMPERATURA: *; TOLERANCIA: *; TIPO: *; DISTRIBUIDOR 1: *; DISTRIBUIDOR 2: *; VALOR: *; TENSIÓN: *
pins: 1, 2

## Cap Pol1
designator C?, comment TANTALUM  value 100uF 6.3v
Polarized Capacitor (Radial); Manufacturer: Generic Components; Class I: Passive; FABRICANTE: AVX; REF FABRICANTE: 6032-15; CODIGO FABRICANTE: TPSC107*006#0150; Published: 8-Jun-2000; Revision: July-2002: Re-released for DXP Platform.; Publisher: Altium Limited; Class II: Capacitor; REF FARNELL: 355-3863; PRECIO FARNELL: 207 100 UNIDADES
footprint RB7.6-15
simulation model CAP (Capacitor)
signal-integrity model Cap Pol
footprint TANTALUM AVX W (CONDENSADOR TANTALUM AVX 100uF 16V)
footprint TANTALUM AVX W (CONDENSADOR TANTALUM AVX 100uF 16V)
pins: 1, 2

## Cap_1
designator C?  value 10pF  (hidden comment: Cap_1)
Capacitor; Manufacturer: Generic Components; Class I: Passive; Published: 8-Jun-2000; Revision: July-2002: Re-released for DXP Platform.; Publisher: Altium Limited; Class II: Capacitor; CODIGO DIGIKEY: *; CODIGO FARNELL: *; CODIGO MOUSER: *; DISTRIBUIDOR: *
simulation model CAP (Capacitor)
signal-integrity model Cap
pins: 1, 2

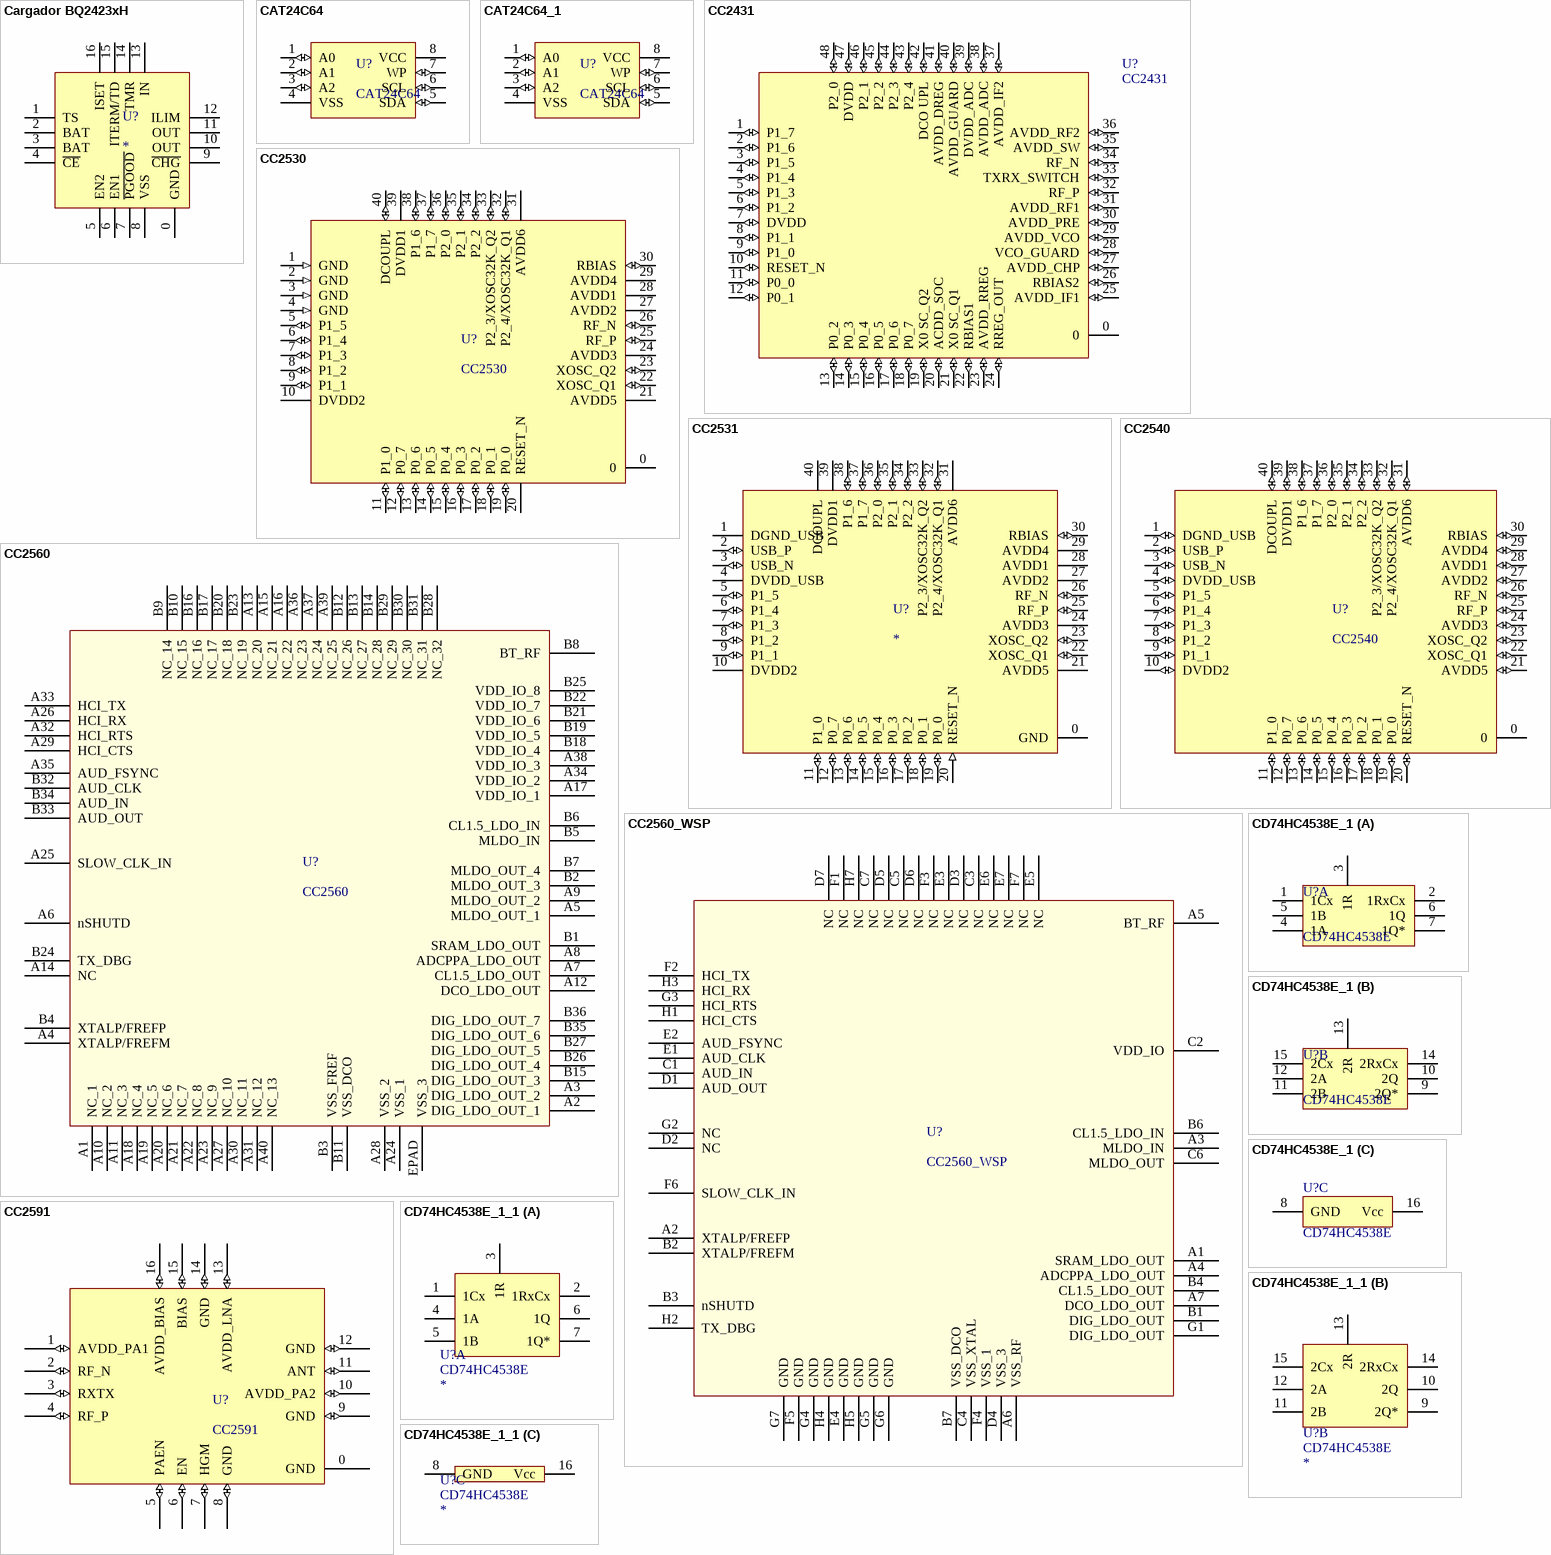
[diagram p3: symbols Cargador BQ2423xH to CD74HC4538E_1_1]

## Cargador BQ2423xH
designator U?
CARGADOR BATERÍA Li-ion 100mA - 500mA; CODIGO DIGIKEY: *; CODIGO FARNELL: *; CODIGO MOUSER: *; FABRICANTE: *; REF_FABRICANTE: *; DISTRIBUIDOR 1: *; DISTRIBUIDOR 2: *; ComponentLink1Description: *; ComponentLink1URL: *
pins: 0 GND, 1 TS, 2 BAT, 3 BAT, 4 ~{CE}, 5 EN2, 6 EN1, 7 ~{PGOOD}, 8 VSS, 9 ~{CHG}, 10 OUT, 11 OUT, 12 ILIM, 13 IN, 14 TMR, 15 ITERM/TD, 16 ISET

## CAT24C64
designator U?
CODIGO FARNELL: *; CODIGO DIGIKEY: *
pins: 1 A0 (io), 2 A1 (io), 3 A2 (io), 4 VSS (power), 5 SDA (io), 6 SCL (io), 7 WP (io), 8 VCC (power)

## CAT24C64_1
designator U?, comment CAT24C64
CODIGO FARNELL: *; CODIGO DIGIKEY: *
pins: 1 A0 (io), 2 A1 (io), 3 A2 (io), 4 VSS (power), 5 SDA (io), 6 SCL (io), 7 WP (io), 8 VCC (power)

## CC2431
designator U?
REF FABRICANTE: XXXYYY; PRECIO FARNELL: 6 EUROS
pins: 0 (power), 1 P1_7 (io), 2 P1_6 (io), 3 P1_5 (io), 4 P1_4 (io), 5 P1_3 (io), 6 P1_2 (io), 7 DVDD (io), 8 P1_1 (io), 9 P1_0 (io), 10 RESET_N (io), 11 P0_0 (io), 12 P0_1 (io), 13 P0_2 (io), 14 P0_3 (io), 15 P0_4 (io), 16 P0_5 (io), 17 P0_6 (io), 18 P0_7 (io), 19 X0 SC_Q2 (io), 20 ACDD_SOC (io), 21 X0 SC_Q1 (io), 22 RBIAS1 (io), 23 AVDD_RREG (io), 24 RREG_OUT (io), 25 AVDD_IF1 (io), 26 RBIAS2 (io), 27 AVDD_CHP (io), 28 VCO_GUARD (io), 29 AVDD_VCO (io), 30 AVDD_PRE (io), 31 AVDD_RF1 (io), 32 RF_P (io), 33 TXRX_SWITCH (io), 34 RF_N (io), 35 AVDD_SW (io), 36 AVDD_RF2 (io), 37 AVDD_IF2 (io), 38 AVDD_ADC (io), 39 DVDD_ADC (io), 40 AVDD_GUARD (io), 41 AVDD_DREG (io), 42 DCO UPL (io), 43 P2_4 (io), 44 P2_3 (io), 45 P2_2 (io), 46 P2_1 (io), 47 DVDD (io), 48 P2_0 (io)

## CC2530
designator U?
REFERENCIA FABRICANTE: CC2530F128RHAT; CODIGO DIGIKEY: 296-24407-1-ND; CODIGO FARNELL: *; CODIGO MOUSER: *; PRECIO FARNELL: *; PRECIO DIGIKEY: *
pins: 0 (power), 1 GND (in), 2 GND (in), 3 GND (in), 4 GND (in), 5 P1_5 (io), 6 P1_4 (io), 7 P1_3 (io), 8 P1_2 (io), 9 P1_1 (io), 10 DVDD2 (power), 11 P1_0 (io), 12 P0_7 (io), 13 P0_6 (io), 14 P0_5 (io), 15 P0_4 (io), 16 P0_3 (io), 17 P0_2 (io), 18 P0_1 (io), 19 P0_0 (io), 20 RESET_N, 21 AVDD5 (power), 22 XOSC_Q1 (io), 23 XOSC_Q2 (io), 24 AVDD3 (power), 25 RF_P (io), 26 RF_N (io), 27 AVDD2 (power), 28 AVDD1 (power), 29 AVDD4 (power), 30 RBIAS (io), 31 AVDD6 (power), 32 P2_4/XOSC32K_Q1 (io), 33 P2_3/XOSC32K_Q2 (io), 34 P2_2 (io), 35 P2_1 (io), 36 P2_0 (io), 37 P1_7 (io), 38 P1_6 (io), 39 DVDD1 (power), 40 DCOUPL (io)

## CC2531
designator U?
Microcontrolador CC2531 TI; CODIGO DIGIKEY: *; CODIGO FARNELL: *; CODIGO MOUSER: *; REF_FABRICANTE: *; FABRICANTE: *; DISTRIBUIDOR 1: *; DISTRIBUIDOR 2: *; ComponentLink1Description: *; ComponentLink1URL: *
pins: 0 GND (power), 1 DGND_USB (power), 2 USB_P (io), 3 USB_N (io), 4 DVDD_USB (power), 5 P1_5 (io), 6 P1_4 (io), 7 P1_3 (io), 8 P1_2 (io), 9 P1_1 (io), 10 DVDD2 (power), 11 P1_0 (io), 12 P0_7 (io), 13 P0_6 (io), 14 P0_5 (io), 15 P0_4 (io), 16 P0_3 (io), 17 P0_2 (io), 18 P0_1 (io), 19 P0_0 (io), 20 RESET_N (in), 21 AVDD5 (power), 22 XOSC_Q1 (io), 23 XOSC_Q2 (io), 24 AVDD3 (power), 25 RF_P (io), 26 RF_N (io), 27 AVDD2 (power), 28 AVDD1 (power), 29 AVDD4 (power), 30 RBIAS (io), 31 AVDD6 (power), 32 P2_4/XOSC32K_Q1 (io), 33 P2_3/XOSC32K_Q2 (io), 34 P2_2 (io), 35 P2_1 (io), 36 P2_0 (io), 37 P1_7 (io), 38 P1_6 (io), 39 DVDD1 (power), 40 DCOUPL (power)

## CC2540
designator U?
CODIGO DIGIKEY: *; CODIGO FARNELL: *; CODIGO MOUSER: *; PRECIO FARNELL: *; PRECIO DIGIKEY: *
pins: 0 (power), 1 DGND_USB (io), 2 USB_P (io), 3 USB_N (io), 4 DVDD_USB (io), 5 P1_5 (io), 6 P1_4 (io), 7 P1_3 (io), 8 P1_2 (io), 9 P1_1 (io), 10 DVDD2 (io), 11 P1_0 (io), 12 P0_7 (io), 13 P0_6 (io), 14 P0_5 (io), 15 P0_4 (io), 16 P0_3 (io), 17 P0_2 (io), 18 P0_1 (io), 19 P0_0 (io), 20 RESET_N (io), 21 AVDD5 (io), 22 XOSC_Q1 (io), 23 XOSC_Q2 (io), 24 AVDD3 (io), 25 RF_P (io), 26 RF_N (io), 27 AVDD2 (io), 28 AVDD1 (io), 29 AVDD4 (io), 30 RBIAS (io), 31 AVDD6 (io), 32 P2_4/XOSC32K_Q1 (io), 33 P2_3/XOSC32K_Q2 (io), 34 P2_2 (io), 35 P2_1 (io), 36 P2_0 (io), 37 P1_7 (io), 38 P1_6 (io), 39 DVDD1 (io), 40 DCOUPL (io)

## CC2560
designator U?
pins: A1 NC_1, A2 DIG_LDO_OUT_1, A3 DIG_LDO_OUT_2, A4 XTALP/FREFM, A5 MLDO_OUT_1, A6 nSHUTD, A7 CL1.5_LDO_OUT, A8 ADCPPA_LDO_OUT, A9 MLDO_OUT_2, A10 NC_2, A11 NC_3, A12 DCO_LDO_OUT, A13 NC_20, A14 NC, A15 NC_21, A16 NC_22, A17 VDD_IO_1, A18 NC_4, A19 NC_5, A20 NC_6, A21 NC_7, A22 NC_8, A23 NC_9, A24 VSS_1, A25 SLOW_CLK_IN, A26 HCI_RX, A27 NC_10, A28 VSS_2, A29 HCI_CTS, A30 NC_11, A31 NC_12, A32 HCI_RTS, A33 HCI_TX, A34 VDD_IO_2, A35 AUD_FSYNC, A36 NC_23, A37 NC_24, A38 VDD_IO_3, A39 NC_25, A40 NC_13, B1 SRAM_LDO_OUT, B2 MLDO_OUT_3, B3 VSS_FREF, B4 XTALP/FREFP, B5 MLDO_IN, B6 CL1.5_LDO_IN, B7 MLDO_OUT_4, B8 BT_RF, B9 NC_14, B10 NC_15, B11 VSS_DCO, B12 NC_26, B13 NC_27, B14 NC_28, B15 DIG_LDO_OUT_3, B16 NC_16, B17 NC_17, B18 VDD_IO_4, B19 VDD_IO_5, B20 NC_18, B21 VDD_IO_6, B22 VDD_IO_7, B23 NC_19, B24 TX_DBG, B25 VDD_IO_8, B26 DIG_LDO_OUT_4, B27 DIG_LDO_OUT_5, B28 NC_32, B29 NC_29, B30 NC_30, B31 NC_31, B32 AUD_CLK, B33 AUD_OUT, B34 AUD_IN, B35 DIG_LDO_OUT_6, B36 DIG_LDO_OUT_7, EPAD VSS_3

## CC2560_WSP
designator U?
CODIGO DIGIKEY: *; CODIGO FARNELL: *; CODIGO MOUSER: *; REFERENCIA FABRICANTE: *; FABRICANTE: *; DISTRIBUIDOR 1: *; DISTRIBUIDOR 2: *
pins: A1 SRAM_LDO_OUT, A2 XTALP/FREFP, A3 MLDO_IN, A4 ADCPPA_LDO_OUT, A5 BT_RF, A6 VSS_RF, A7 DCO_LDO_OUT, B1 DIG_LDO_OUT, B2 XTALP/FREFM, B3 nSHUTD, B4 CL1.5_LDO_OUT, B6 CL1.5_LDO_IN, B7 VSS_DCO, C1 AUD_IN, C2 VDD_IO, C3 NC, C4 VSS_XTAL, C5 NC, C6 MLDO_OUT, C7 NC, D1 AUD_OUT, D2 NC, D3 NC, D4 VSS_3, D5 NC, D6 NC, D7 NC, E1 AUD_CLK, E2 AUD_FSYNC, E3 NC, E4 GND, E5 NC, E6 NC, E7 NC, F1 NC, F2 HCI_TX, F3 NC, F4 VSS_1, F5 GND, F6 SLOW_CLK_IN, F7 NC, G1 DIG_LDO_OUT, G2 NC, G3 HCI_RTS, G4 GND, G5 GND, G6 GND, G7 GND, H1 HCI_CTS, H2 TX_DBG, H3 HCI_RX, H4 GND, H5 GND, H7 NC

## CC2591
designator U?
CODIGO DIGIKEY: *; CODIGO FARNELL: *; DISTRIBUIDOR: *; PRECIO DIGIKEY: *; PRECIO FARNELL: *; PRECIO MOUSER: *; CODIGO MOUSER: *
pins: 0 GND, 1 AVDD_PA1 (io), 2 RF_N (io), 3 RXTX (io), 4 RF_P (io), 5 PAEN (io), 6 EN (io), 7 HGM (io), 8 GND (io), 9 GND (io), 10 AVDD_PA2 (io), 11 ANT (io), 12 GND (io), 13 AVDD_LNA (io), 14 GND (io), 15 BIAS (io), 16 AVDD_BIAS (io)

## CD74HC4538E_1
designator U?, comment CD74HC4538E
footprint DIP-16
part A pins: 1 1Cx, 2 1RxCx, 3 1R, 4 1A, 5 1B, 6 1Q, 7 1Q*
part B pins: 9 2Q*, 10 2Q, 11 2B, 12 2A, 13 2R, 14 2RxCx, 15 2Cx
part C pins: 8 GND, 16 Vcc

## CD74HC4538E_1_1
designator U?, comment CD74HC4538E
REF FARNELL: *
footprint DIP-16
part A pins: 1 1Cx, 2 1RxCx, 3 1R, 4 1A, 5 1B, 6 1Q, 7 1Q*
part B pins: 9 2Q*, 10 2Q, 11 2B, 12 2A, 13 2R, 14 2RxCx, 15 2Cx
part C pins: 8 GND, 16 Vcc

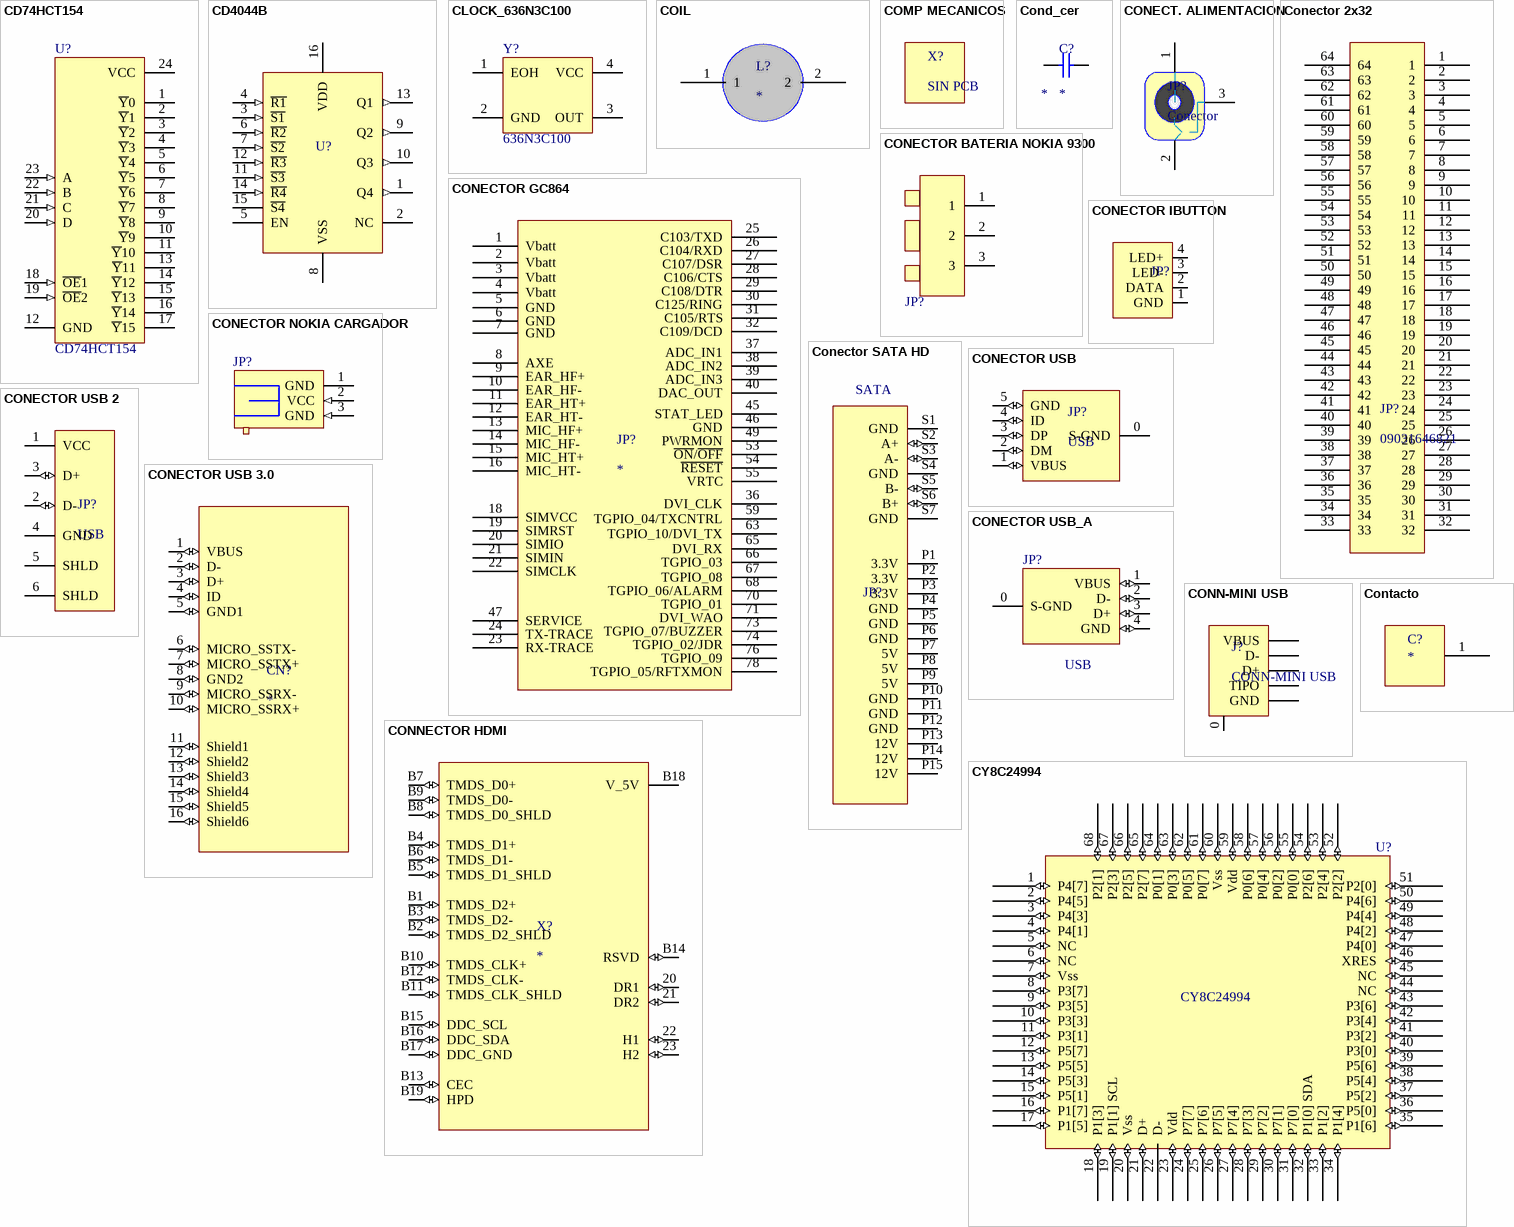
[diagram p4: symbols CD74HCT154 to CY8C24994]

## CD74HCT154
designator U?
4-Line to 16-Line Decoder / Demultiplexer with Open-Collector Outputs; Manufacturer: TI; Distributor p/n: 296-33133-5-ND; Distributor: Digikey; Case: PDIP; 24; Manufacturer p/n: CD74HCT154
pins: 1 ~{Y}0 (oc), 2 ~{Y}1 (oc), 3 ~{Y}2 (oc), 4 ~{Y}3 (oc), 5 ~{Y}4 (oc), 6 ~{Y}5 (oc), 7 ~{Y}6 (oc), 8 ~{Y}7 (oc), 9 ~{Y}8 (oc), 10 ~{Y}9 (oc), 11 ~{Y}10 (oc), 12 GND (power), 13 ~{Y}11 (oc), 14 ~{Y}12 (oc), 15 ~{Y}13 (oc), 16 ~{Y}14 (oc), 17 ~{Y}15 (oc), 18 ~{OE}1 (in), 19 ~{OE}2 (in), 20 D (in), 21 C (in), 22 B (in), 23 A (in), 24 VCC (power)

## CD4044B
designator U?  (value not drawn)
Latch_CD4044B; Manufacturer: TI; Voltage: 3 - 18 V; Manufacturer p/n: CD4044B; Distributor: Digikey; Distributor p/n: 296-2051-5-ND
pins: 1 Q4 (out), 2 NC, 3 ~{S1} (in), 4 ~{R1} (in), 5 EN, 6 ~{R2} (in), 7 ~{S2} (in), 8 VSS, 9 Q2 (out), 10 Q3 (out), 11 ~{S3} (in), 12 ~{R3} (in), 13 Q1 (out), 14 ~{R4} (in), 15 ~{S4}, 16 VDD (power)

## CLOCK_636N3C100
designator Y?, comment 636N3C100
FABRICANTE: CTS; DISTRIBUIDOR: RICHARDSON ELECTRONICS; PRECIO: *
footprint 636N3C100M (CLOCK 100mHZ CTS)
pins: 1 EOH (power), 2 GND (power), 3 OUT (power), 4 VCC (power)

## COIL
designator L?
CODIGO DIGIKEY: *; CODIGO FARNELL: *; CODIGO MOUSER: *; FABRICANTE: *; CODIGO FABRICANTE: *
pins: 1, 2

## COMP MECANICOS
designator X?, comment SIN PCB
CODIGO FARNELL: *; CODIGO DIGIKEY: *; CODIGO MOUSER: *; DISTRIBUIDOR: *

## Cond_cer
designator C?
CODIGO_FARNELL: *; CODIGO_DIGIKEY: *; CODIGO_MOUSER: *; DISTRIBUIDOR1: *; DISTRIBUIDOR2: *; VALOR: *; TENSION: *
pins: 1, 2

## CONECT. ALIMENTACION
designator JP?, comment Conector
CODIGO DIGIKEY: CP-102A-ND
pins: 1, 2, 3

## Conector 2x32
designator JP?, comment 09031646821
Manufacturer: Harting; Reference: 09031646821
pins: 1, 2, 3, 4, 5, 6, 7, 8, 9, 10, 11, 12, 13, 14, 15, 16, 17, 18, 19, 20, 21, 22, 23, 24, 25, 26, 27, 28, 29, 30, 31, 32, 33, 34, 35, 36, 37, 38, 39, 40, 41, 42, 43, 44, 45, 46, 47, 48, 49, 50, 51, 52, 53, 54, 55, 56, 57, 58, 59, 60, 61, 62, 63, 64

## CONECTOR BATERIA NOKIA 9300
designator JP?, comment CONECTOR BATERIA  (value not drawn)
FABRICANTE: TYCO ELECTRONICS; PRECIO: *
footprint CON_BAT_3POS_NOKIA (conector para batería nokia 9300 tyco)
pins: 1 (power), 2 (power), 3 (power)

## CONECTOR GC864
designator JP?
CODIGO DIGIKEY: WM6489CT-ND
pins: 1 Vbatt, 2 Vbatt, 3 Vbatt, 4 Vbatt, 5 GND, 6 GND, 7 GND, 8 AXE, 9 EAR_HF+, 10 EAR_HF-, 11 EAR_HT+, 12 EAR_HT-, 13 MIC_HF+, 14 MIC_HF-, 15 MIC_HT+, 16 MIC_HT-, 17 hidden, 18 SIMVCC, 19 SIMRST, 20 SIMIO, 21 SIMIN, 22 SIMCLK, 23 RX-TRACE, 24 TX-TRACE, 25 C103/TXD, 26 C104/RXD, 27 C107/DSR, 28 C106/CTS, 29 C108/DTR, 30 C125/RING, 31 C105/RTS, 32 C109/DCD, 33 hidden, 34 hidden, 35 hidden, 36 DVI_CLK, 37 ADC_IN1, 38 ADC_IN2, 39 ADC_IN3, 40 DAC_OUT, 41 hidden, 42 hidden, 43 hidden, 44 hidden, 45 STAT_LED, 46 GND, 47 SERVICE, 48 hidden, 49 PWRMON, 50 hidden, 51 hidden, 52 hidden, 53 ~{ON}/~{OFF}, 54 ~{RESET}, 55 VRTC, 56 hidden, 57 hidden, 58 hidden, 59 TGPIO_04/TXCNTRL, 60 hidden, 61 hidden, 62 hidden, 63 TGPIO_10/DVI_TX, 64 hidden, 65 DVI_RX, 66 TGPIO_03, 67 TGPIO_08, 68 TGPIO_06/ALARM, 69 hidden, 70 TGPIO_01, 71 DVI_WAO, 72 hidden, 73 TGPIO_07/BUZZER, 74 TGPIO_02/JDR, 75 hidden, 76 TGPIO_09, 77 hidden, 78 TGPIO_05/RFTXMON, 79 hidden, 80 hidden

## CONECTOR IBUTTON
designator JP?  (value not drawn)
CODIGO FARNELL: *; PRECIO FARNELL: *
pins: 1 GND, 2 DATA, 3 LED-, 4 LED+

## CONECTOR NOKIA CARGADOR
designator JP?, comment CONECTOR ANCHO NOKIA  (value not drawn)
DS-213; Manufacturer: Generic Components; Class I: Connector; FABRICANTE: E-COMPONENTS; PRECIO: XX; Revision: July-2002: Re-released for DXP Platform.; Publisher: Altium Limited
footprint MHDR1X2
signal-integrity model Connector
footprint DS-213 (conector para cargador nokia ancho)
pins: 1 GND "negativo", 2 VCC (in) "pin positivo", 3 GND (in) "negativo"

## Conector SATA HD
designator JP?
FABRICANTE: *; CODIGO FABRICANTE: *; CODIGO DIGIKEY: *; CODIGO FARNELL: *; CODIGO MOUSER: *; DISTRIBUIDOR 1: *; DISTRIBUIDOR 2: *
pins: P1 3.3V (power), P2 3.3V (power), P3 3.3V (power), P4 GND (power), P5 GND (power), P6 GND (power), P7 5V (power), P8 5V (power), P9 5V (power), P10 GND (power), P11 GND (power), P12 GND (power), P13 12V (power), P14 12V (power), P15 12V (power), S1 GND (power), S2 A+ (io), S3 A- (io), S4 GND (power), S5 B- (io), S6 B+ (io), S7 GND (power)
text: SATA

## CONECTOR USB
designator JP?, comment USB
pins: 0 S-GND (power), 1 VBUS (io), 2 DM (io), 3 DP (io), 4 ID (io), 5 GND (io)

## CONECTOR USB 2
designator JP?, comment USB
CODIGO DIGIKEY: *; CODIGO FARNELL: *; CODIGO MOUSER: *; CODIGO PRODUCTO: *; FABRICANTE: *; DISTRIBUIDOR 1: *; DISTRIBUIDOR 2: *
pins: 1 VCC (power), 2 D- (io), 3 D+ (io), 4 GND (power), 5 SHLD (power), 6 SHLD (power)

## CONECTOR USB 3.0
designator CN?
FABRICANTE: *; CODIGO_DIGIKEY: *; CODIGO FABRICANTE: *; PINES: *; CODIGO_FARNELL: *; CODIGO_MOUSER: *
pins: 1 VBUS (io), 2 D- (io), 3 D+ (io), 4 ID (io), 5 GND1 (io), 6 MICRO_SSTX- (io), 7 MICRO_SSTX+ (io), 8 GND2 (io), 9 MICRO_SSRX- (io), 10 MICRO_SSRX+ (io), 11 Shield1 (io), 12 Shield2 (io), 13 Shield3 (io), 14 Shield4 (io), 15 Shield5 (io), 16 Shield6 (io)

## CONECTOR USB_A
designator JP?, comment USB
CODIGO DIGIKEY: *; CODIGO MOUSER: *; FABRICANTE: *; CODIGO FABRICANTE: *; DISTRIBUIDOR 1: *; DISTRIBUIDOR 2: *
footprint CONECTOR USB A (CONECTOR USB TIPO A)
pins: 0 S-GND (power), 1 VBUS (io), 2 D- (io), 3 D+ (io), 4 GND (io)

## CONN-MINI USB
designator J?
CODIGO FARNELL: *; CODIGO DIGIKEY: *; DOCIGO FAB.: *; FABRICANTE: *
pins: 0 (power), 1 VBUS, 2 D-, 3 D+, 4 TIPO, 5 GND

## CONNECTOR HDMI
designator X?
CODIGO DIGIKEY: *; CODIGO FARNELL: *; CODIGO MOUSER: *; CODIGO PRODUCTO: *; DISTRIBUIDOR 1: *; DISTRIBUIDOR 2: *
pins: 20 DR1 (io), 21 DR2 (io), 22 H1 (io), 23 H2 (io), B1 TMDS_D2+ (io), B2 TMDS_D2_SHLD (io), B3 TMDS_D2- (io), B4 TMDS_D1+ (io), B5 TMDS_D1_SHLD (io), B6 TMDS_D1- (io), B7 TMDS_D0+ (io), B8 TMDS_D0_SHLD (io), B9 TMDS_D0- (io), B10 TMDS_CLK+ (io), B11 TMDS_CLK_SHLD (io), B12 TMDS_CLK- (io), B13 CEC (io), B14 RSVD (io), B15 DDC_SCL (io), B16 DDC_SDA (io), B17 DDC_GND (io), B18 V_5V (power), B19 HPD (io)

## Contacto
designator C?
footprint BATTERY_CONTACT
pins: 1

## CY8C24994
designator U?  (value not drawn)
Psoc; CODIGO FARNELL: *; PRECIO FARNELL: *
pins: 1 P4[7] (io), 2 P4[5] (io), 3 P4[3] (io), 4 P4[1] (io), 5 NC (io), 6 NC (io), 7 Vss (io), 8 P3[7] (io), 9 P3[5] (io), 10 P3[3] (io), 11 P3[1] (io), 12 P5[7] (io), 13 P5[5] (io), 14 P5[3] (io), 15 P5[1] (io), 16 P1[7] (io), 17 P1[5] (io), 18 P1[3] (io), 19 P1[1] SCL (io), 20 Vss (io), 21 D+ (io), 22 D- (power), 23 Vdd (io), 24 P7[7] (io), 25 P7[6] (io), 26 P7[5] (io), 27 P7[4] (io), 28 P7[3] (io), 29 P7[2] (io), 30 P7[1] (io), 31 P7[0] (io), 32 P1[0] SDA (io), 33 P1[2] (io), 34 P1[4] (io), 35 P1[6] (io), 36 P5[0] (io), 37 P5[2] (io), 38 P5[4] (io), 39 P5[6] (io), 40 P3[0] (io), 41 P3[2] (io), 42 P3[4] (io), 43 P3[6] (io), 44 NC (io), 45 NC (io), 46 XRES (io), 47 P4[0] (io), 48 P4[2] (io), 49 P4[4] (io), 50 P4[6] (io), 51 P2[0] (io), 52 P2[2] (io), 53 P2[4] (io), 54 P2[6] (io), 55 P0[0] (io), 56 P0[2] (io), 57 P0[4] (io), 58 P0[6] (io), 59 Vdd (io), 60 Vss (io), 61 P0[7] (io), 62 P0[5] (io), 63 P0[3] (io), 64 P0[1] (io), 65 P2[7] (io), 66 P2[5] (io), 67 P2[3] (io), 68 P2[1] (io)

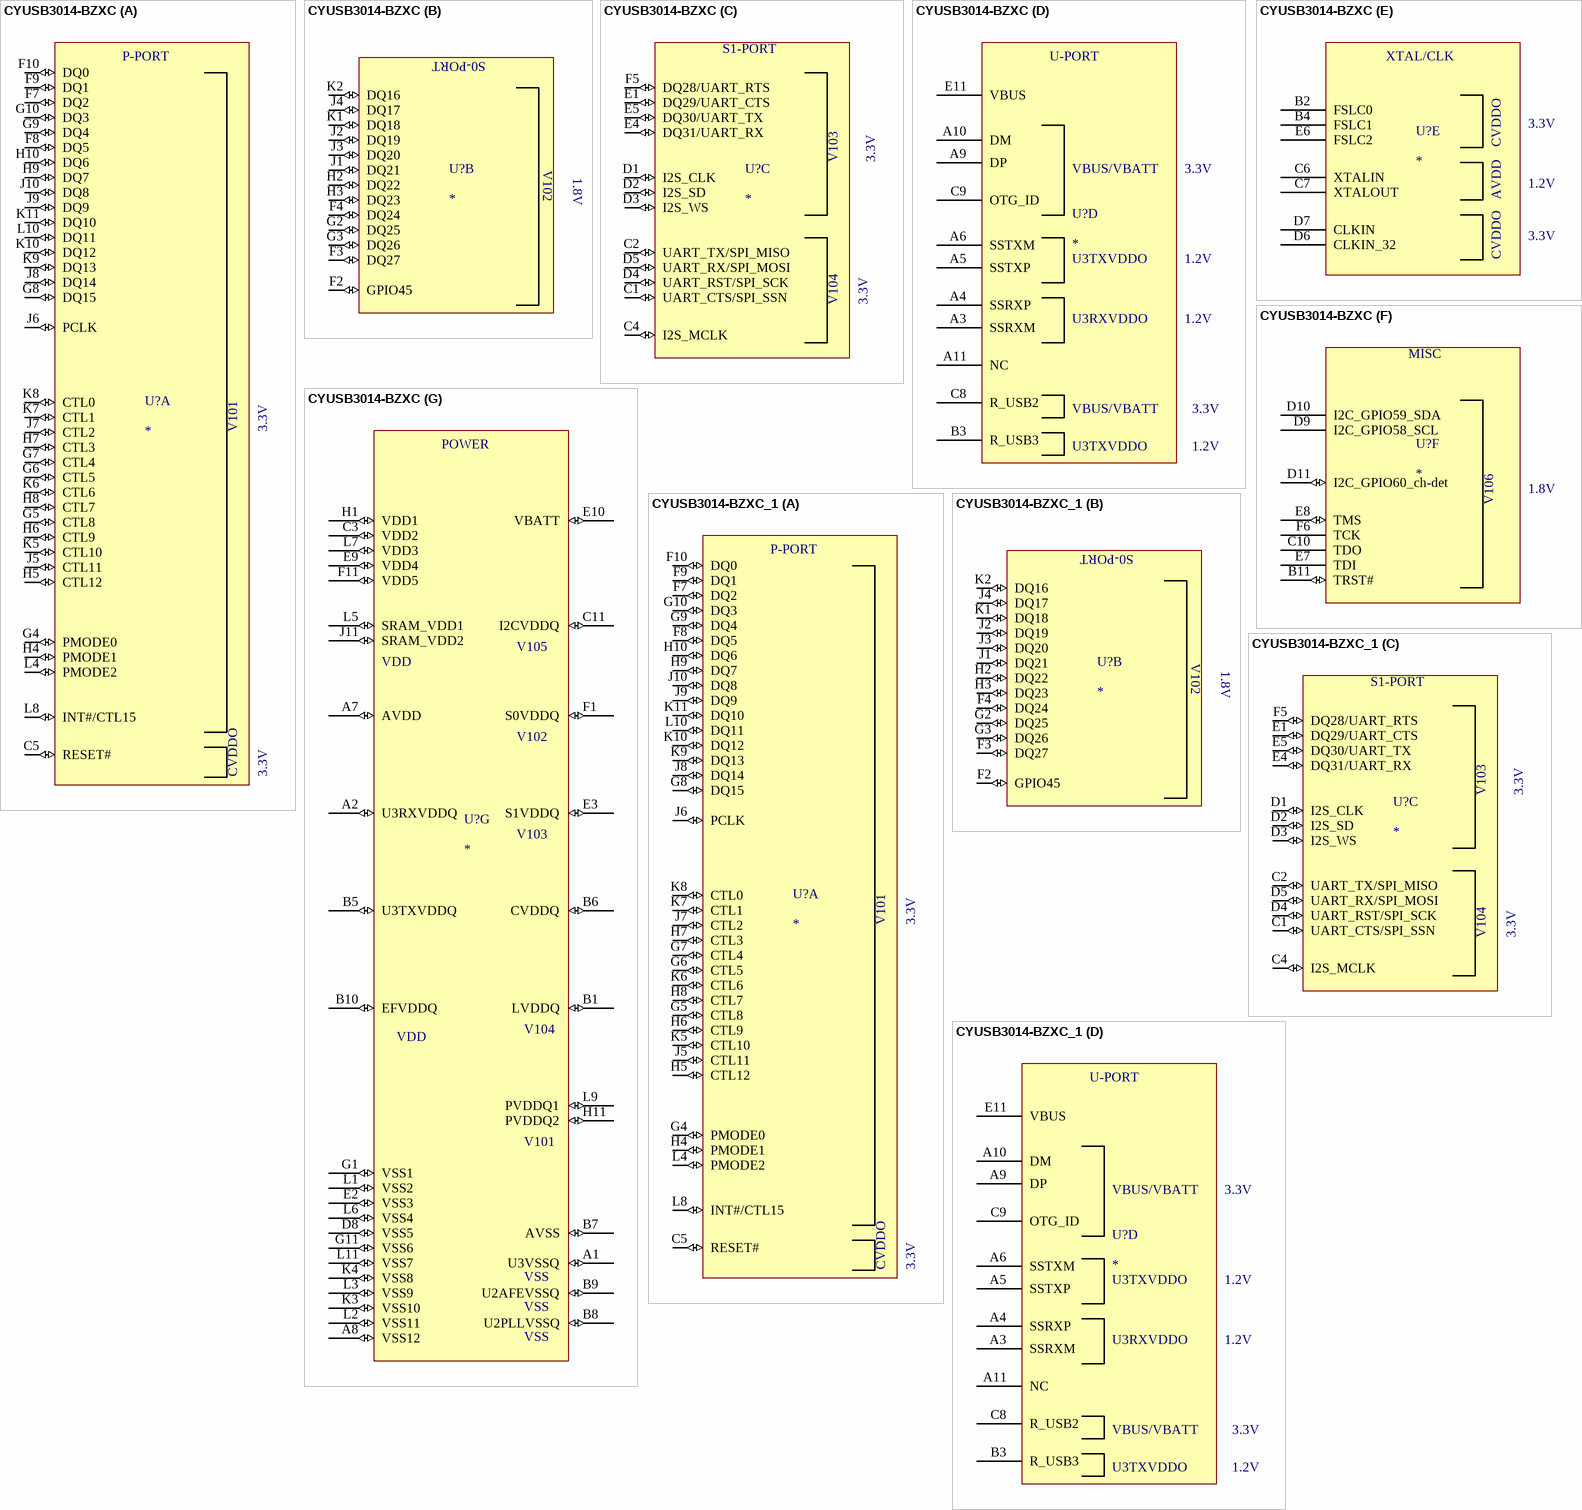
[diagram p5: symbols CYUSB3014-BZXC to CYUSB3014-BZXC_1]

## CYUSB3014-BZXC
designator U?
CODIGO DIGIKEY: *; CODIGO FABRICANTE: *; CASE: *; FABRICANTE: *; DISTRIBUIDOR: *
part A pins: C5 RESET# (io), F7 DQ2 (io), F8 DQ5 (io), F9 DQ1 (io), F10 DQ0 (io), G4 PMODE0 (io), G5 CTL8 (io), G6 CTL5 (io), G7 CTL4 (io), G8 DQ15 (io), G9 DQ4 (io), G10 DQ3 (io), H4 PMODE1 (io), H5 CTL12 (io), H6 CTL9 (io), H7 CTL3 (io), H8 CTL7 (io), H9 DQ7 (io), H10 DQ6 (io), J5 CTL11 (io), J6 PCLK (io), J7 CTL2 (io), J8 DQ14 (io), J9 DQ9 (io), J10 DQ8 (io), K5 CTL10 (io), K6 CTL6 (io), K7 CTL1 (io), K8 CTL0 (io), K9 DQ13 (io), K10 DQ12 (io), K11 DQ10 (io), L4 PMODE2 (io), L8 INT#/CTL15 (io), L10 DQ11 (io)
part B pins: F2 GPIO45 (io), F3 DQ27 (io), F4 DQ24 (io), G2 DQ25 (io), G3 DQ26 (io), H2 DQ22 (io), H3 DQ23 (io), J1 DQ21 (io), J2 DQ19 (io), J3 DQ20 (io), J4 DQ17 (io), K1 DQ18 (io), K2 DQ16 (io)
part C pins: C1 UART_CTS/SPI_SSN (io), C2 UART_TX/SPI_MISO (io), C4 I2S_MCLK (io), D1 I2S_CLK (io), D2 I2S_SD (io), D3 I2S_WS (io), D4 UART_RST/SPI_SCK (io), D5 UART_RX/SPI_MOSI (io), E1 DQ29/UART_CTS (io), E4 DQ31/UART_RX (io), E5 DQ30/UART_TX (io), F5 DQ28/UART_RTS (io)
part D pins: A3 SSRXM, A4 SSRXP, A5 SSTXP, A6 SSTXM, A9 DP, A10 DM, A11 NC, B3 R_USB3, C8 R_USB2, C9 OTG_ID, E11 VBUS
part E pins: B2 FSLC0, B4 FSLC1, C6 XTALIN, C7 XTALOUT, D6 CLKIN_32, D7 CLKIN, E6 FSLC2
part F pins: B11 TRST# (io), C10 TDO, D9 I2C_GPIO58_SCL, D10 I2C_GPIO59_SDA, D11 I2C_GPIO60_ch-det (io), E7 TDI, E8 TMS (io), F6 TCK
part G pins: A1 U3VSSQ (io), A2 U3RXVDDQ (io), A7 AVDD (io), A8 VSS12 (io), B1 LVDDQ (io), B5 U3TXVDDQ (io), B6 CVDDQ (io), B7 AVSS (io), B8 U2PLLVSSQ (io), B9 U2AFEVSSQ (io), B10 EFVDDQ (io), C3 VDD2 (io), C11 I2CVDDQ (io), D8 VSS5 (io), E2 VSS3 (io), E3 S1VDDQ (io), E9 VDD4 (io), E10 VBATT (io), F1 S0VDDQ (io), F11 VDD5 (io), G1 VSS1 (io), G11 VSS6 (io), H1 VDD1 (io), H11 PVDDQ2 (io), J11 SRAM_VDD2 (io), K3 VSS10 (io), K4 VSS8 (io), L1 VSS2 (io), L2 VSS11 (io), L3 VSS9 (io), L5 SRAM_VDD1 (io), L6 VSS4 (io), L7 VDD3 (io), L9 PVDDQ1 (io), L11 VSS7 (io)
part A text: P-PORT; V101; 3.3V; CVDDO
part B text: S0-PORT; V102; 1.8V
part C text: S1-PORT; V103; 3.3V; V104
part D text: U-PORT; VBUS/VBATT; 3.3V; U3TXVDDO; 1.2V; U3RXVDDO
part E text: XTAL/CLK; 3.3V; CVDDO; 1.2V
part F text: MISC; 1.8V; V106
part G text: POWER; V105; VDD; V102; V103; V104; V101; VSS

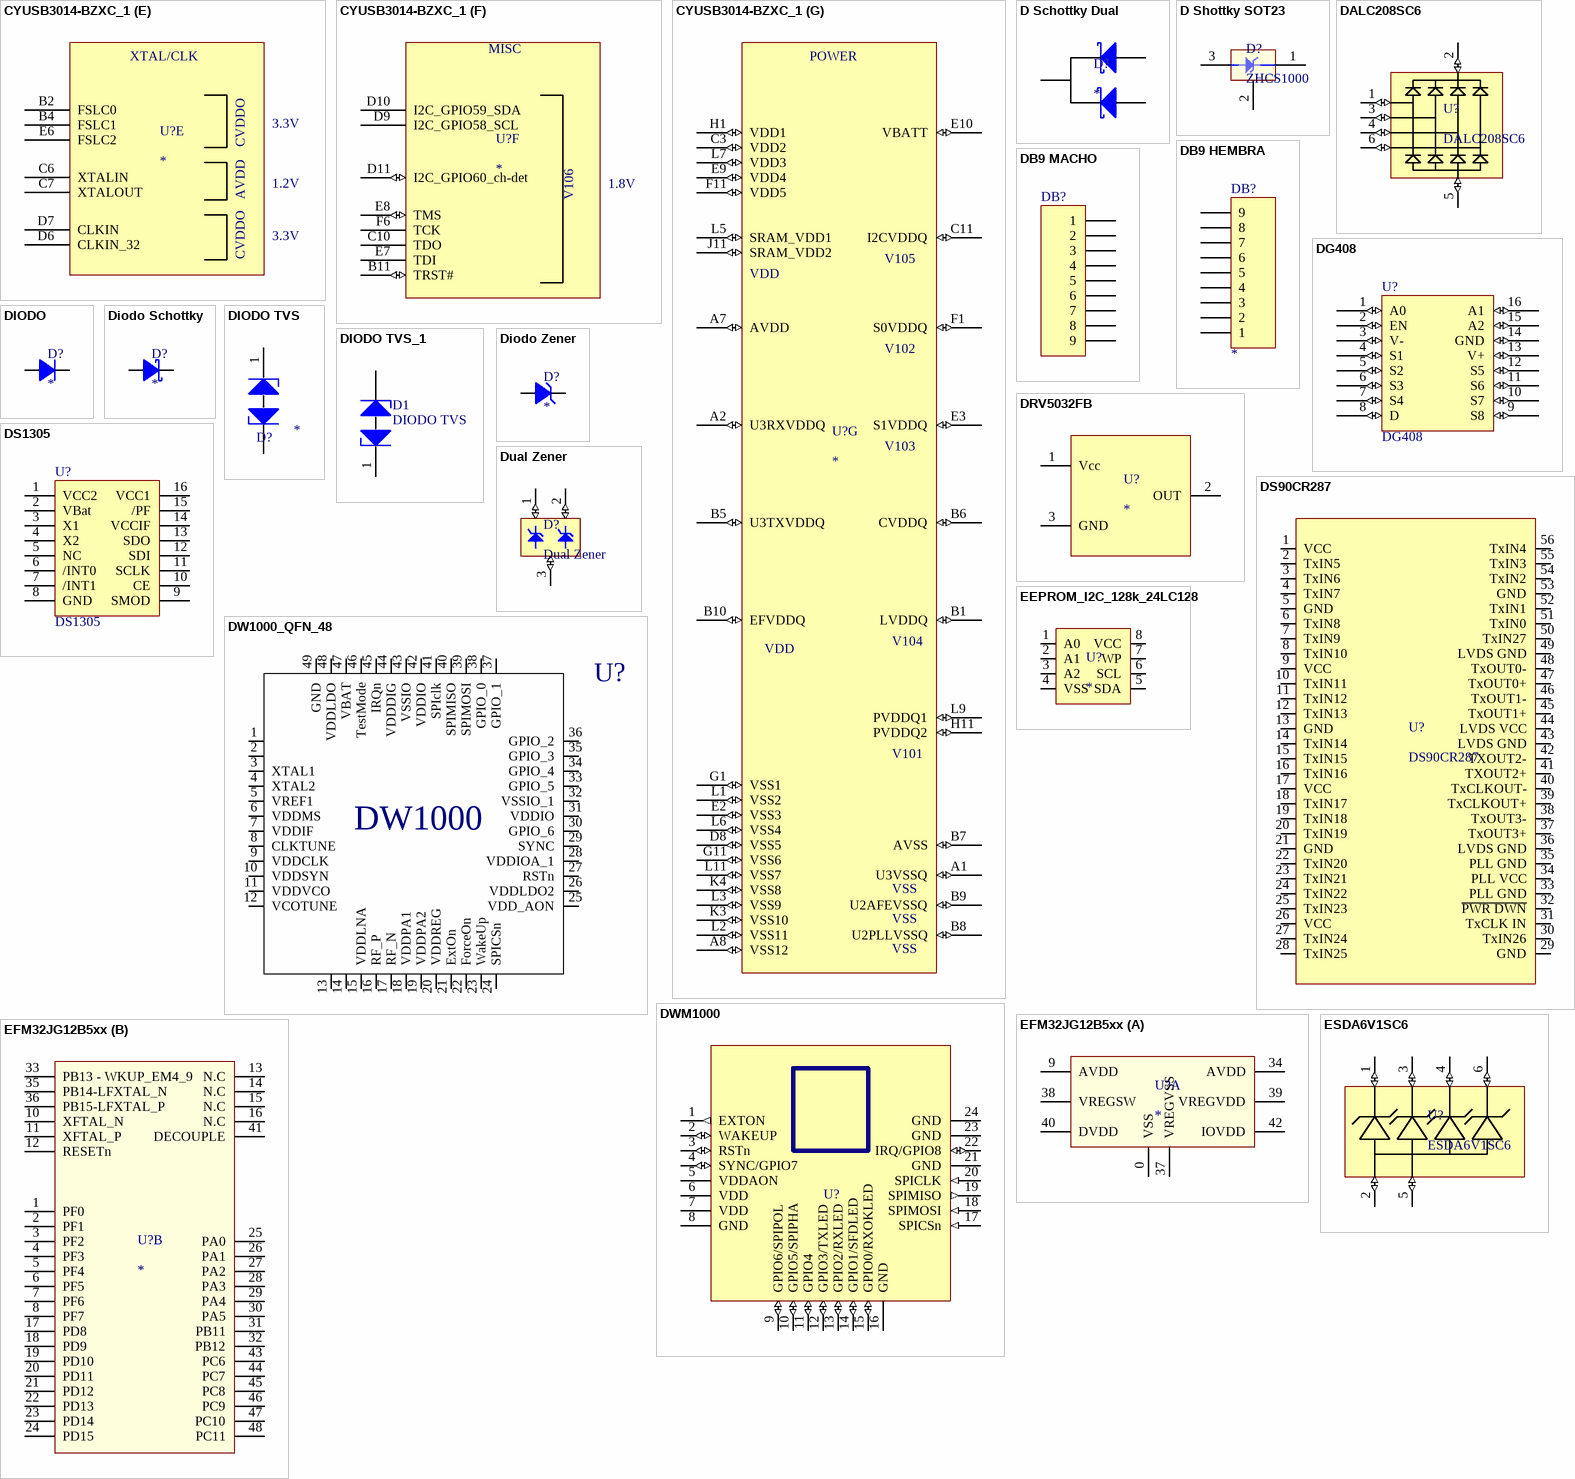
[diagram p6: symbols CYUSB3014-BZXC_1 to ESDA6V1SC6]

## CYUSB3014-BZXC_1
designator U?
CODIGO DIGIKEY: *; CODIGO FABRICANTE: *; CASE: *; FABRICANTE: *; DISTRIBUIDOR: *
part A pins: C5 RESET# (io), F7 DQ2 (io), F8 DQ5 (io), F9 DQ1 (io), F10 DQ0 (io), G4 PMODE0 (io), G5 CTL8 (io), G6 CTL5 (io), G7 CTL4 (io), G8 DQ15 (io), G9 DQ4 (io), G10 DQ3 (io), H4 PMODE1 (io), H5 CTL12 (io), H6 CTL9 (io), H7 CTL3 (io), H8 CTL7 (io), H9 DQ7 (io), H10 DQ6 (io), J5 CTL11 (io), J6 PCLK (io), J7 CTL2 (io), J8 DQ14 (io), J9 DQ9 (io), J10 DQ8 (io), K5 CTL10 (io), K6 CTL6 (io), K7 CTL1 (io), K8 CTL0 (io), K9 DQ13 (io), K10 DQ12 (io), K11 DQ10 (io), L4 PMODE2 (io), L8 INT#/CTL15 (io), L10 DQ11 (io)
part B pins: F2 GPIO45 (io), F3 DQ27 (io), F4 DQ24 (io), G2 DQ25 (io), G3 DQ26 (io), H2 DQ22 (io), H3 DQ23 (io), J1 DQ21 (io), J2 DQ19 (io), J3 DQ20 (io), J4 DQ17 (io), K1 DQ18 (io), K2 DQ16 (io)
part C pins: C1 UART_CTS/SPI_SSN (io), C2 UART_TX/SPI_MISO (io), C4 I2S_MCLK (io), D1 I2S_CLK (io), D2 I2S_SD (io), D3 I2S_WS (io), D4 UART_RST/SPI_SCK (io), D5 UART_RX/SPI_MOSI (io), E1 DQ29/UART_CTS (io), E4 DQ31/UART_RX (io), E5 DQ30/UART_TX (io), F5 DQ28/UART_RTS (io)
part D pins: A3 SSRXM, A4 SSRXP, A5 SSTXP, A6 SSTXM, A9 DP, A10 DM, A11 NC, B3 R_USB3, C8 R_USB2, C9 OTG_ID, E11 VBUS
part E pins: B2 FSLC0, B4 FSLC1, C6 XTALIN, C7 XTALOUT, D6 CLKIN_32, D7 CLKIN, E6 FSLC2
part F pins: B11 TRST# (io), C10 TDO, D9 I2C_GPIO58_SCL, D10 I2C_GPIO59_SDA, D11 I2C_GPIO60_ch-det (io), E7 TDI, E8 TMS (io), F6 TCK
part G pins: A1 U3VSSQ (io), A2 U3RXVDDQ (io), A7 AVDD (io), A8 VSS12 (io), B1 LVDDQ (io), B5 U3TXVDDQ (io), B6 CVDDQ (io), B7 AVSS (io), B8 U2PLLVSSQ (io), B9 U2AFEVSSQ (io), B10 EFVDDQ (io), C3 VDD2 (io), C11 I2CVDDQ (io), D8 VSS5 (io), E2 VSS3 (io), E3 S1VDDQ (io), E9 VDD4 (io), E10 VBATT (io), F1 S0VDDQ (io), F11 VDD5 (io), G1 VSS1 (io), G11 VSS6 (io), H1 VDD1 (io), H11 PVDDQ2 (io), J11 SRAM_VDD2 (io), K3 VSS10 (io), K4 VSS8 (io), L1 VSS2 (io), L2 VSS11 (io), L3 VSS9 (io), L5 SRAM_VDD1 (io), L6 VSS4 (io), L7 VDD3 (io), L9 PVDDQ1 (io), L11 VSS7 (io)
part A text: P-PORT; V101; 3.3V; CVDDO
part B text: S0-PORT; V102; 1.8V
part C text: S1-PORT; V103; 3.3V; V104
part D text: U-PORT; VBUS/VBATT; 3.3V; U3TXVDDO; 1.2V; U3RXVDDO
part E text: XTAL/CLK; 3.3V; CVDDO; 1.2V
part F text: MISC; 1.8V; V106
part G text: POWER; V105; VDD; V102; V103; V104; V101; VSS

## D Schottky Dual
designator D?
D Schottky; CODIGO DIGIKEY: *; CODIGO MOUSER: *; CODIGO FARNELL: *; ComponentLink1Description: *; ComponentLink1URL: *; DISTRIBUIDOR 1: *; DISTRIBUIDOR 2: *; FABRICANTE: *; REF_FABRICANTE: *; Vr: *; If: *
pins: 1 A, 2 A, 3 K

## D Shottky SOT23
designator D?, comment ZHCS1000
pins: 1, 2, 3

## DALC208SC6
designator U?
CODIGO PRODUCTO: DALC208SC6; CODIGO DIGIKEY: 497-2525-1-ND; CODIGO FARNELL: 1311841; PRECIO DIGIKEY 1: 0.91; PRECIO DIGIKEY 100: 0.646; PRECIO DIGIKEY 1000: 0.39476; PRECIO DIGIKEY 60000: 0.32602; PRECIO FARNELL 1: 0.54
footprint SOT 23_6
pins: 1 (io), 2 (io), 3 (io), 4 (io), 5 (io), 6 (io)

## DB9 HEMBRA
designator DB?, comment Header 10  (value not drawn)
Header, 9-Pin; Manufacturer: Generic Components; Class I: Connector; Revision: July-2002: Re-released for DXP Platform.; Publisher: Altium Limited; REF FARNELL: *
footprint DB9 codo macho
signal-integrity model Connector
footprint DB9 CODO HERMBRA
pins: 1, 2, 3, 4, 5, 6, 7, 8, 9

## DB9 MACHO
designator DB?, comment Header 9  (value not drawn)
Header, 9-Pin; Manufacturer: Generic Components; Class I: Connector; Revision: July-2002: Re-released for DXP Platform.; Publisher: Altium Limited; REF FARNELL: *
footprint DB9 codo hermbra
signal-integrity model Connector
footprint DB9 CODO MACHO
pins: 1, 2, 3, 4, 5, 6, 7, 8, 9

## DG408
designator U?
CODIGO FARNELL: 9663827; PRECIO FARNELL: 1,25
pins: 1 A0 (io), 2 EN (io), 3 V- (io), 4 S1 (io), 5 S2 (io), 6 S3 (io), 7 S4 (io), 8 D (io), 9 S8 (io), 10 S7 (io), 11 S6 (io), 12 S5 (io), 13 V+ (io), 14 GND (io), 15 A2 (io), 16 A1 (io)

## DIODO
designator D?
Diode; CODIGO DIGIKEY: *; CODIGO MOUSER: *; CODIGO FARNELL: *; FABRICANTE: *; REF_FABRICANTE: *; DISTRIBUIDOR 1: *; DISTRIBUIDOR 2: *; ComponentLink1Description: *; ComponentLink1URL: *; If: *; Vr: *
pins: 1 A, 2 K

## Diodo Schottky
designator D?
Diodo Schottky; CODIGO DIGIKEY: *; CODIGO MOUSER: *; CODIGO FARNELL: *; REF_FABRICANTE: *; FABRICANTE: *; DISTRIBUIDOR1: *; DISTRIBUIDOR2: *; ComponentLink1Description: *; ComponentLink1URL: *; Vr: *; If: *
pins: 1 A, 2 K

## DIODO TVS
designator D?
Diodo TVS; CODIGO DIGIKEY: *; CODIGO FARNELL: *; CODIGO MOUSER: *; ComponentLink1Description: *; ComponentLink1URL: *; FABRICANTE: *; REF_FABRICANTE: *; DISTRIBUIDOR 1: *; DISTRIBUIDOR 2: *; Ip(máx): *; VESD: *; ENCAPSULADO: *; Vr: *
pins: 1 A, 2 K

## DIODO TVS_1
designator D1, comment DIODO TVS
Bidirectional Symmetrical (BiSy) Single Line ESD-Protection Diode  in Silicon Package; CODIGO FABRICANTE: VCUT05D1-SD0-G4-08; CODIGO DIGIKEY: VCUT05D1-SD0-G4-08CT-ND
footprint 0201
pins: 1 A, 2 K

## Diodo Zener
designator D?
Zener; CODIGO DIGIKEY: *; CODIGO MOUSER: *; CODIGO FARNELL: *; REF_FABRICANTE: *; FABRICANTE: *; DISTRIBUIDOR1: *; DISTRIBUIDOR2: *; ComponentLink1Description: *; ComponentLink1URL: *; Vr: *; If: *
pins: 1 A, 2 K

## DRV5032FB
designator U?
LP HALL 32FBDBZR; REF_FABRICANTE: DRV5032FBDBZR; CODIGO DIGIKEY: 296-47323-2-ND
footprint SOT23 (SOT-23; 3 Leads; Body 3.0 x 2.5 mm, inc. leads (LxW max))
pins: 1 Vcc, 2 OUT, 3 GND